# Altium schematic symbol library aiskylab-MCUs.SchLib: 242 symbols (part 6 of 21)
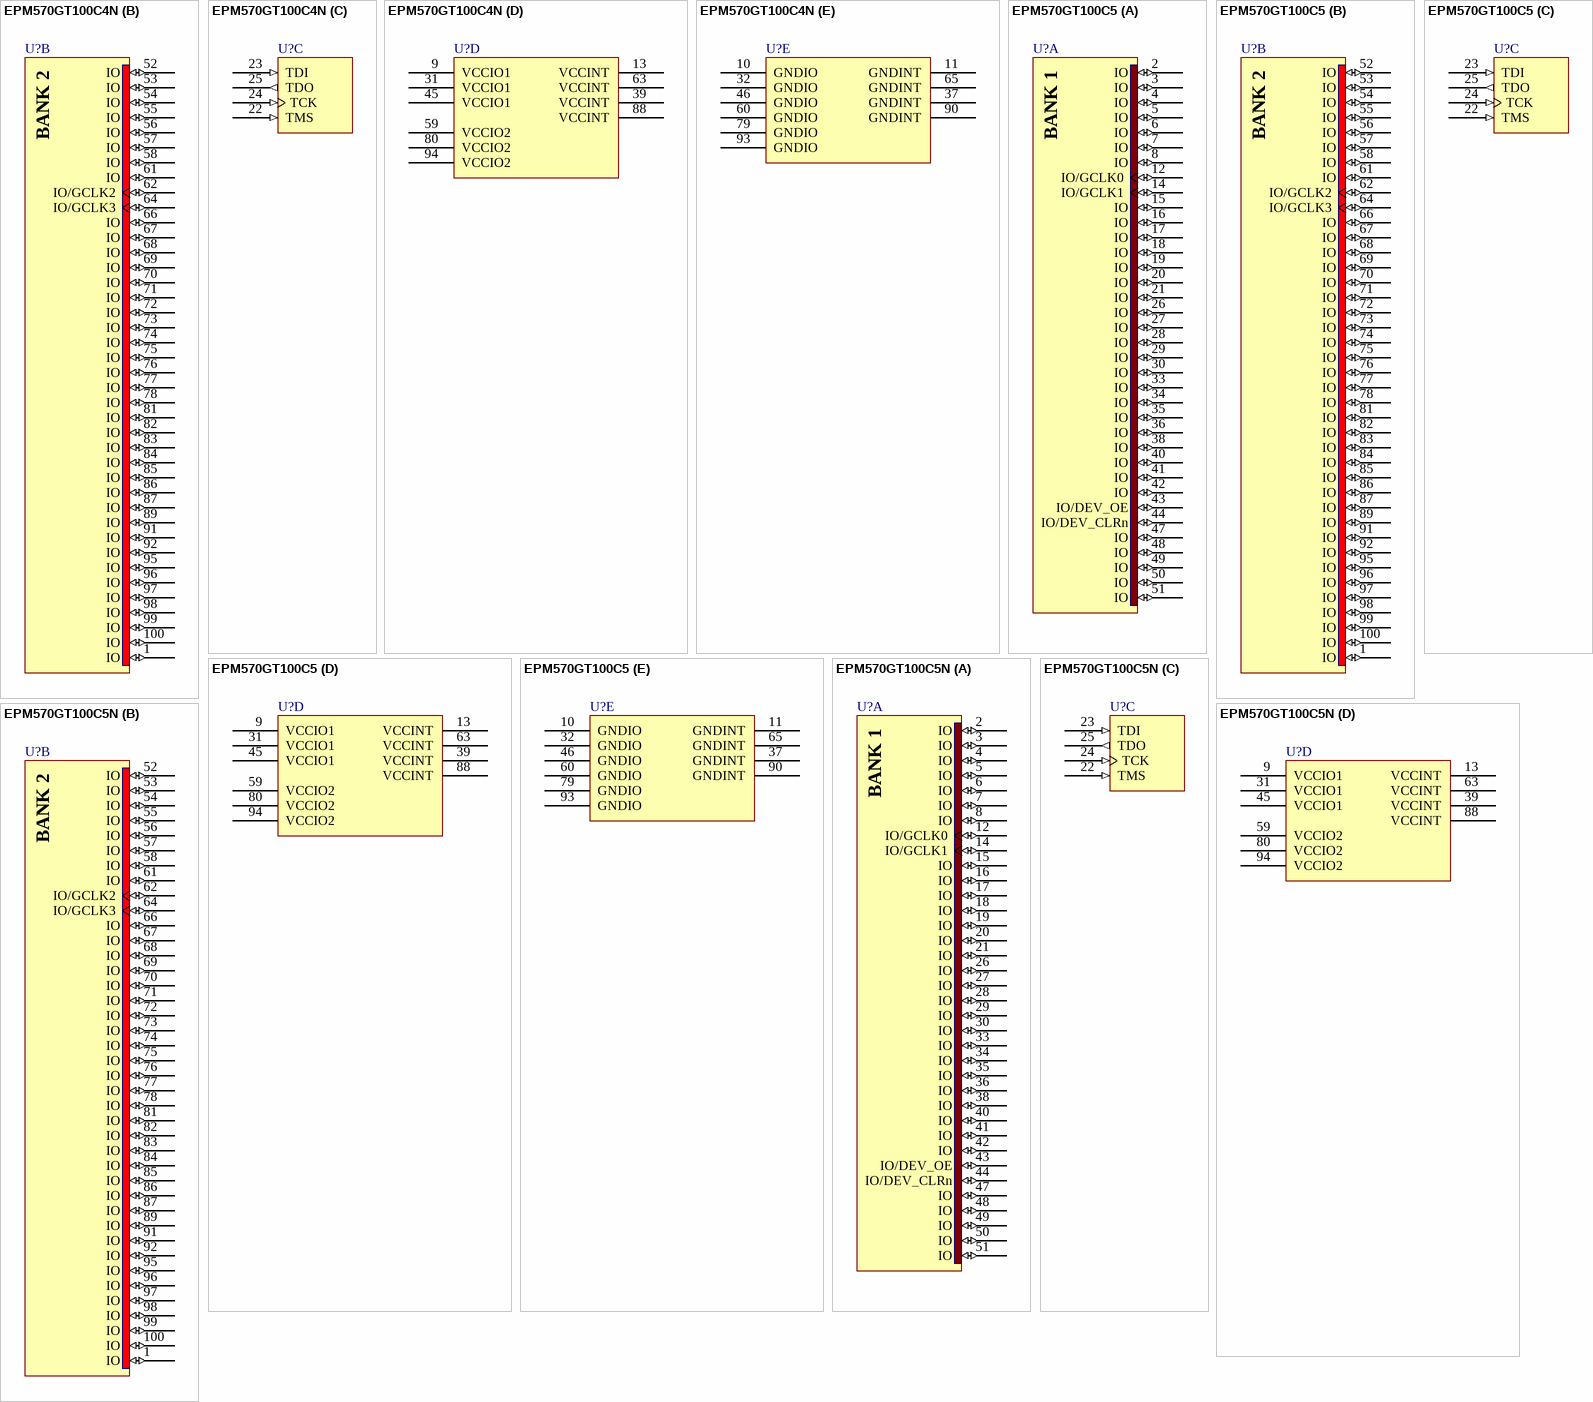
[diagram p169: symbols EPM570GT100C4N to EPM570GT100C5N]

## EPM570GT100C4N
designator U?
MAX II 1.8V CPLD, 76 IOs, 570 Logic Elements, 100-Pin Plastic TQFP, Commercial Temperature, Speed Grade 4, Pb-Free; Note: Each set of VCCIO pins can be connected to 3.3V, 2.5V, 1.8V, or 1.5V.; Note: All VCCINT pins must be connected to 1.8V.; Published: 4-Mar-2005; LatestRevisionDate: 13-Apr-2006; LatestRevisionNote: IPC-7351 Footprint Added.; DatasheetVersion: ver1.8, Jul-2006; PackageVersion: ver15.1, May-2008; PackageReference: TQFP100; Publisher: Altium Limited; PackageDescription: 100-Pin Plastic Thin Quad Flat Pack (TQFP100) - Wire Bond; Supplier 1: Digi-Key; Supplier Part Number 1: 544-1404-ND; Code_JEDEC: MS-026-AED; ComponentLink1Description: Manufacturer Link; ComponentLink1URL: http://www.altera.com/products/devices/cpld/max2/mx2-index.jsp; ComponentLink2Description: Handbook; ComponentLink2URL: http://www.altera.com/literature/hb/max2/max2_mii5v1.pdf; ComponentLink3Description: Packaging Specification; ComponentLink3URL: http://www.altera.com/literature/ds/dspkg.pdf
footprint TQFP100_N (Thin QFP, 100-Leads, Body 14x14mm, Pitch 0.5mm, IPC Medium Density)
footprint TQFP100_L (Thin QFP, 100-Leads, Body 14x14mm, Pitch 0.5mm, IPC High Density)
footprint TQFP100_M (Thin QFP, 100-Leads, Body 14x14mm, Pitch 0.5mm, IPC Low Density)
3D model EPM570-TQFP100 (100-Pin Plastic Thin Quad Flat Pack (TQFP100) - Wire Bond)
part A pins: 2 IO (io), 3 IO (io), 4 IO (io), 5 IO (io), 6 IO (io), 7 IO (io), 8 IO (io), 12 IO/GCLK0 (io), 14 IO/GCLK1 (io), 15 IO (io), 16 IO (io), 17 IO (io), 18 IO (io), 19 IO (io), 20 IO (io), 21 IO (io), 26 IO (io), 27 IO (io), 28 IO (io), 29 IO (io), 30 IO (io), 33 IO (io), 34 IO (io), 35 IO (io), 36 IO (io), 38 IO (io), 40 IO (io), 41 IO (io), 42 IO (io), 43 IO/DEV_OE (io), 44 IO/DEV_CLRn (io), 47 IO (io), 48 IO (io), 49 IO (io), 50 IO (io), 51 IO (io)
part B pins: 1 IO (io), 52 IO (io), 53 IO (io), 54 IO (io), 55 IO (io), 56 IO (io), 57 IO (io), 58 IO (io), 61 IO (io), 62 IO/GCLK2 (io), 64 IO/GCLK3 (io), 66 IO (io), 67 IO (io), 68 IO (io), 69 IO (io), 70 IO (io), 71 IO (io), 72 IO (io), 73 IO (io), 74 IO (io), 75 IO (io), 76 IO (io), 77 IO (io), 78 IO (io), 81 IO (io), 82 IO (io), 83 IO (io), 84 IO (io), 85 IO (io), 86 IO (io), 87 IO (io), 89 IO (io), 91 IO (io), 92 IO (io), 95 IO (io), 96 IO (io), 97 IO (io), 98 IO (io), 99 IO (io), 100 IO (io)
part C pins: 22 TMS (in), 23 TDI (in), 24 TCK (in), 25 TDO (out)
part D pins: 9 VCCIO1 (power), 13 VCCINT (power), 31 VCCIO1 (power), 39 VCCINT (power), 45 VCCIO1 (power), 59 VCCIO2 (power), 63 VCCINT (power), 80 VCCIO2 (power), 88 VCCINT (power), 94 VCCIO2 (power)
part E pins: 10 GNDIO (power), 11 GNDINT (power), 32 GNDIO (power), 37 GNDINT (power), 46 GNDIO (power), 60 GNDIO (power), 65 GNDINT (power), 79 GNDIO (power), 90 GNDINT (power), 93 GNDIO (power)
part A text: BANK 1
part B text: BANK 2

## EPM570GT100C5
designator U?
MAX II 1.8V CPLD, 76 IOs, 570 Logic Elements, 100-Pin Plastic TQFP, Commercial Temperature, Speed Grade 5; Note: Each set of VCCIO pins can be connected to 3.3V, 2.5V, 1.8V, or 1.5V.; Note: All VCCINT pins must be connected to 1.8V.; Published: 15-Jul-2004; LatestRevisionDate: 13-Apr-2006; LatestRevisionNote: IPC-7351 Footprint Added.; DatasheetVersion: ver1.8, Jul-2006; PackageVersion: ver15.1, May-2008; PackageReference: TQFP100; Publisher: Altium Limited; PackageDescription: 100-Pin Plastic Thin Quad Flat Pack (TQFP100) - Wire Bond; Supplier 1: Digi-Key; Supplier Part Number 1: 544-1308-ND; Code_JEDEC: MS-026-AED; ComponentLink1Description: Manufacturer Link; ComponentLink1URL: http://www.altera.com/products/devices/cpld/max2/mx2-index.jsp; ComponentLink2Description: Handbook; ComponentLink2URL: http://www.altera.com/literature/hb/max2/max2_mii5v1.pdf; ComponentLink3Description: Packaging Specification; ComponentLink3URL: http://www.altera.com/literature/ds/dspkg.pdf
footprint TQFP100_N (Thin QFP, 100-Leads, Body 14x14mm, Pitch 0.5mm, IPC Medium Density)
footprint TQFP100_L (Thin QFP, 100-Leads, Body 14x14mm, Pitch 0.5mm, IPC High Density)
footprint TQFP100_M (Thin QFP, 100-Leads, Body 14x14mm, Pitch 0.5mm, IPC Low Density)
3D model EPM570-TQFP100 (100-Pin Plastic Thin Quad Flat Pack (TQFP100) - Wire Bond)
part A pins: 2 IO (io), 3 IO (io), 4 IO (io), 5 IO (io), 6 IO (io), 7 IO (io), 8 IO (io), 12 IO/GCLK0 (io), 14 IO/GCLK1 (io), 15 IO (io), 16 IO (io), 17 IO (io), 18 IO (io), 19 IO (io), 20 IO (io), 21 IO (io), 26 IO (io), 27 IO (io), 28 IO (io), 29 IO (io), 30 IO (io), 33 IO (io), 34 IO (io), 35 IO (io), 36 IO (io), 38 IO (io), 40 IO (io), 41 IO (io), 42 IO (io), 43 IO/DEV_OE (io), 44 IO/DEV_CLRn (io), 47 IO (io), 48 IO (io), 49 IO (io), 50 IO (io), 51 IO (io)
part B pins: 1 IO (io), 52 IO (io), 53 IO (io), 54 IO (io), 55 IO (io), 56 IO (io), 57 IO (io), 58 IO (io), 61 IO (io), 62 IO/GCLK2 (io), 64 IO/GCLK3 (io), 66 IO (io), 67 IO (io), 68 IO (io), 69 IO (io), 70 IO (io), 71 IO (io), 72 IO (io), 73 IO (io), 74 IO (io), 75 IO (io), 76 IO (io), 77 IO (io), 78 IO (io), 81 IO (io), 82 IO (io), 83 IO (io), 84 IO (io), 85 IO (io), 86 IO (io), 87 IO (io), 89 IO (io), 91 IO (io), 92 IO (io), 95 IO (io), 96 IO (io), 97 IO (io), 98 IO (io), 99 IO (io), 100 IO (io)
part C pins: 22 TMS (in), 23 TDI (in), 24 TCK (in), 25 TDO (out)
part D pins: 9 VCCIO1 (power), 13 VCCINT (power), 31 VCCIO1 (power), 39 VCCINT (power), 45 VCCIO1 (power), 59 VCCIO2 (power), 63 VCCINT (power), 80 VCCIO2 (power), 88 VCCINT (power), 94 VCCIO2 (power)
part E pins: 10 GNDIO (power), 11 GNDINT (power), 32 GNDIO (power), 37 GNDINT (power), 46 GNDIO (power), 60 GNDIO (power), 65 GNDINT (power), 79 GNDIO (power), 90 GNDINT (power), 93 GNDIO (power)
part A text: BANK 1
part B text: BANK 2

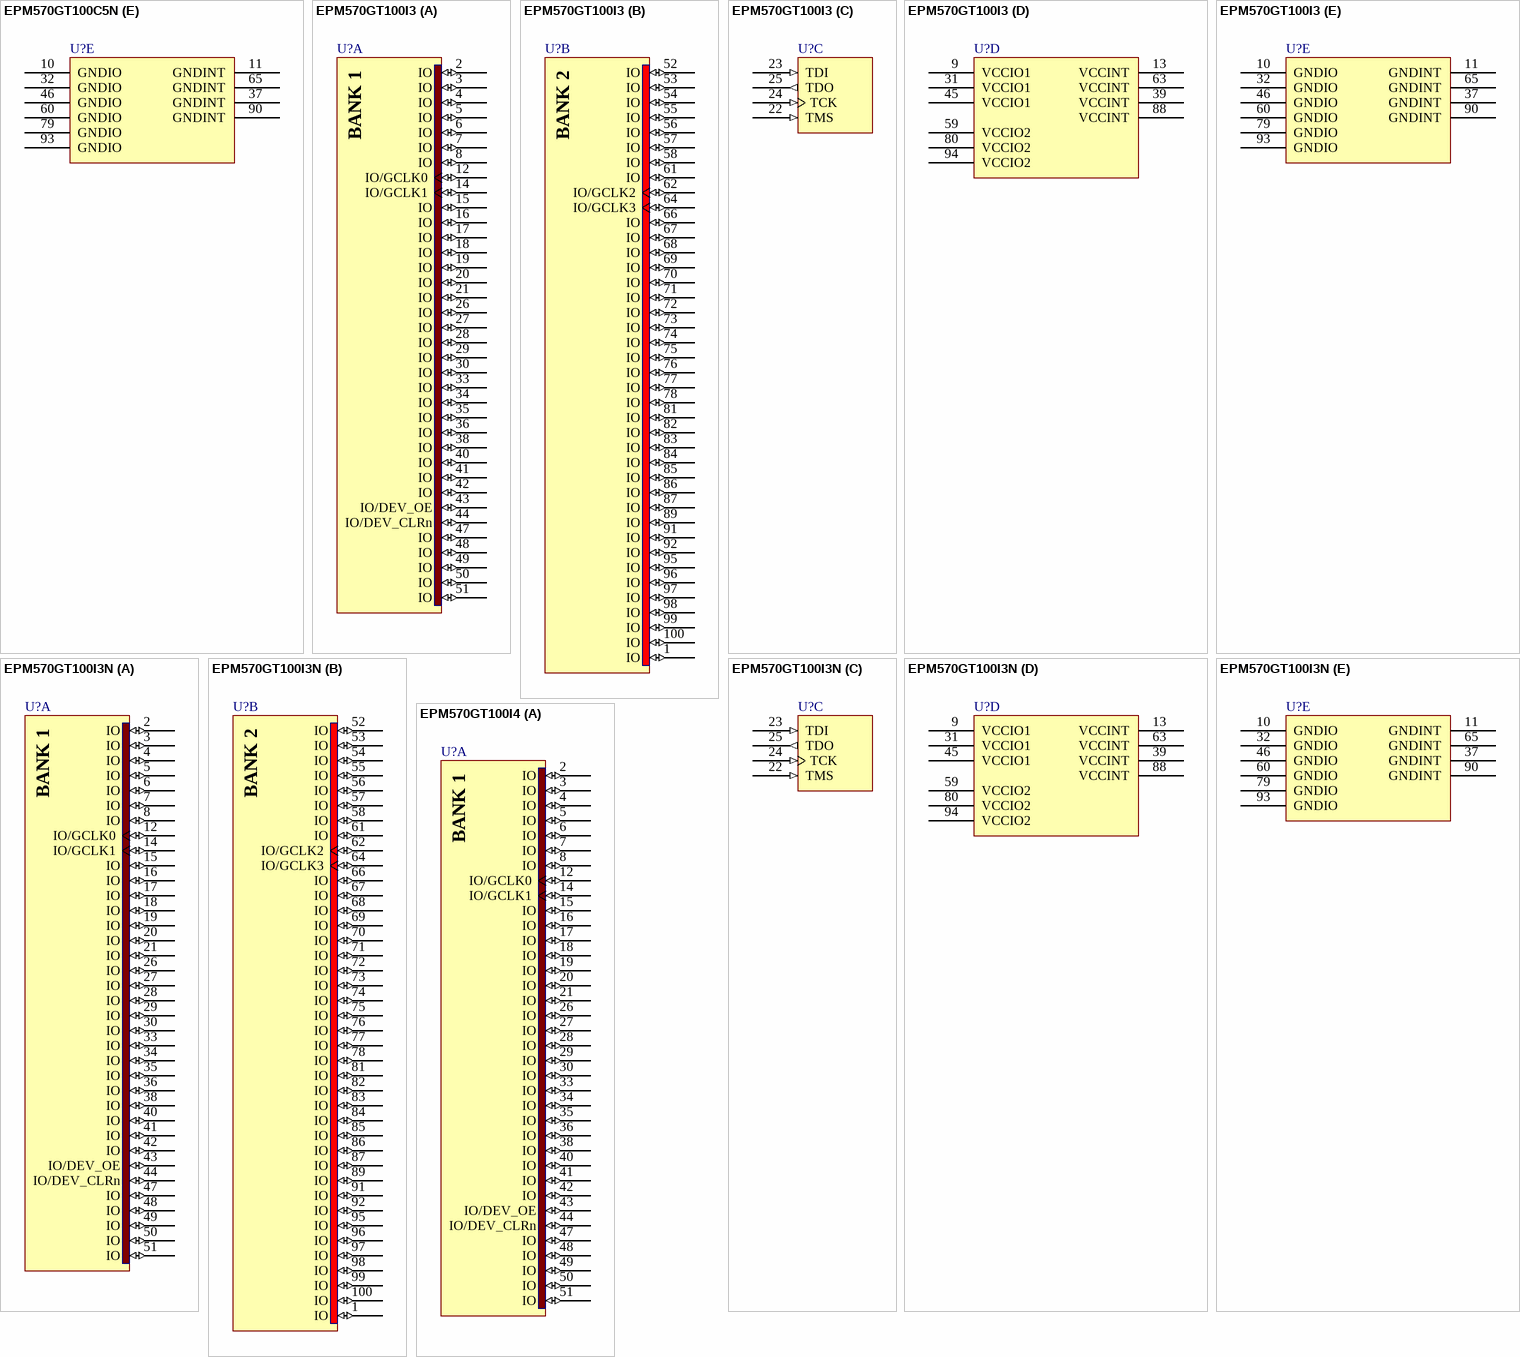
[diagram p45: symbols EPM570GT100C5N to EPM570GT100I4]

## EPM570GT100C5N
designator U?
MAX II 1.8V CPLD, 76 IOs, 570 Logic Elements, 100-Pin Plastic TQFP, Commercial Temperature, Speed Grade 5, Pb-Free; Note: Each set of VCCIO pins can be connected to 3.3V, 2.5V, 1.8V, or 1.5V.; Note: All VCCINT pins must be connected to 1.8V.; Published: 4-Mar-2005; LatestRevisionDate: 13-Apr-2006; LatestRevisionNote: IPC-7351 Footprint Added.; DatasheetVersion: ver1.8, Jul-2006; PackageVersion: ver15.1, May-2008; PackageReference: TQFP100; Publisher: Altium Limited; PackageDescription: 100-Pin Plastic Thin Quad Flat Pack (TQFP100) - Wire Bond; Supplier 1: Digi-Key; Supplier Part Number 1: 544-1405-ND; Supplier 2: Farnell; Supplier Part Number 2: 1549469; Code_JEDEC: MS-026-AED; ComponentLink1Description: Manufacturer Link; ComponentLink1URL: http://www.altera.com/products/devices/cpld/max2/mx2-index.jsp; ComponentLink2Description: Handbook; ComponentLink2URL: http://www.altera.com/literature/hb/max2/max2_mii5v1.pdf; ComponentLink3Description: Packaging Specification; ComponentLink3URL: http://www.altera.com/literature/ds/dspkg.pdf
footprint TQFP100_N (Thin QFP, 100-Leads, Body 14x14mm, Pitch 0.5mm, IPC Medium Density)
footprint TQFP100_L (Thin QFP, 100-Leads, Body 14x14mm, Pitch 0.5mm, IPC High Density)
footprint TQFP100_M (Thin QFP, 100-Leads, Body 14x14mm, Pitch 0.5mm, IPC Low Density)
3D model EPM570-TQFP100 (100-Pin Plastic Thin Quad Flat Pack (TQFP100) - Wire Bond)
part A pins: 2 IO (io), 3 IO (io), 4 IO (io), 5 IO (io), 6 IO (io), 7 IO (io), 8 IO (io), 12 IO/GCLK0 (io), 14 IO/GCLK1 (io), 15 IO (io), 16 IO (io), 17 IO (io), 18 IO (io), 19 IO (io), 20 IO (io), 21 IO (io), 26 IO (io), 27 IO (io), 28 IO (io), 29 IO (io), 30 IO (io), 33 IO (io), 34 IO (io), 35 IO (io), 36 IO (io), 38 IO (io), 40 IO (io), 41 IO (io), 42 IO (io), 43 IO/DEV_OE (io), 44 IO/DEV_CLRn (io), 47 IO (io), 48 IO (io), 49 IO (io), 50 IO (io), 51 IO (io)
part B pins: 1 IO (io), 52 IO (io), 53 IO (io), 54 IO (io), 55 IO (io), 56 IO (io), 57 IO (io), 58 IO (io), 61 IO (io), 62 IO/GCLK2 (io), 64 IO/GCLK3 (io), 66 IO (io), 67 IO (io), 68 IO (io), 69 IO (io), 70 IO (io), 71 IO (io), 72 IO (io), 73 IO (io), 74 IO (io), 75 IO (io), 76 IO (io), 77 IO (io), 78 IO (io), 81 IO (io), 82 IO (io), 83 IO (io), 84 IO (io), 85 IO (io), 86 IO (io), 87 IO (io), 89 IO (io), 91 IO (io), 92 IO (io), 95 IO (io), 96 IO (io), 97 IO (io), 98 IO (io), 99 IO (io), 100 IO (io)
part C pins: 22 TMS (in), 23 TDI (in), 24 TCK (in), 25 TDO (out)
part D pins: 9 VCCIO1 (power), 13 VCCINT (power), 31 VCCIO1 (power), 39 VCCINT (power), 45 VCCIO1 (power), 59 VCCIO2 (power), 63 VCCINT (power), 80 VCCIO2 (power), 88 VCCINT (power), 94 VCCIO2 (power)
part E pins: 10 GNDIO (power), 11 GNDINT (power), 32 GNDIO (power), 37 GNDINT (power), 46 GNDIO (power), 60 GNDIO (power), 65 GNDINT (power), 79 GNDIO (power), 90 GNDINT (power), 93 GNDIO (power)
part A text: BANK 1
part B text: BANK 2

## EPM570GT100I3
designator U?
MAX II 1.8V CPLD, 76 IOs, 570 Logic Elements, 100-Pin Plastic TQFP, Industrial Temperature, Speed Grade 3; Note: Each set of VCCIO pins can be connected to 3.3V, 2.5V, 1.8V, or 1.5V.; Note: All VCCINT pins must be connected to 1.8V.; Published: 18-Aug-2005; LatestRevisionDate: 13-Apr-2006; LatestRevisionNote: IPC-7351 Footprint Added.; DatasheetVersion: ver1.8, Jul-2006; PackageVersion: ver15.1, May-2008; PackageReference: TQFP100; Publisher: Altium Limited; PackageDescription: 100-Pin Plastic Thin Quad Flat Pack (TQFP100) - Wire Bond; Code_JEDEC: MS-026-AED; ComponentLink1Description: Manufacturer Link; ComponentLink1URL: http://www.altera.com/products/devices/cpld/max2/mx2-index.jsp; ComponentLink2Description: Handbook; ComponentLink2URL: http://www.altera.com/literature/hb/max2/max2_mii5v1.pdf; ComponentLink3Description: Packaging Specification; ComponentLink3URL: http://www.altera.com/literature/ds/dspkg.pdf
footprint TQFP100_N (Thin QFP, 100-Leads, Body 14x14mm, Pitch 0.5mm, IPC Medium Density)
footprint TQFP100_L (Thin QFP, 100-Leads, Body 14x14mm, Pitch 0.5mm, IPC High Density)
footprint TQFP100_M (Thin QFP, 100-Leads, Body 14x14mm, Pitch 0.5mm, IPC Low Density)
3D model EPM570-TQFP100 (100-Pin Plastic Thin Quad Flat Pack (TQFP100) - Wire Bond)
part A pins: 2 IO (io), 3 IO (io), 4 IO (io), 5 IO (io), 6 IO (io), 7 IO (io), 8 IO (io), 12 IO/GCLK0 (io), 14 IO/GCLK1 (io), 15 IO (io), 16 IO (io), 17 IO (io), 18 IO (io), 19 IO (io), 20 IO (io), 21 IO (io), 26 IO (io), 27 IO (io), 28 IO (io), 29 IO (io), 30 IO (io), 33 IO (io), 34 IO (io), 35 IO (io), 36 IO (io), 38 IO (io), 40 IO (io), 41 IO (io), 42 IO (io), 43 IO/DEV_OE (io), 44 IO/DEV_CLRn (io), 47 IO (io), 48 IO (io), 49 IO (io), 50 IO (io), 51 IO (io)
part B pins: 1 IO (io), 52 IO (io), 53 IO (io), 54 IO (io), 55 IO (io), 56 IO (io), 57 IO (io), 58 IO (io), 61 IO (io), 62 IO/GCLK2 (io), 64 IO/GCLK3 (io), 66 IO (io), 67 IO (io), 68 IO (io), 69 IO (io), 70 IO (io), 71 IO (io), 72 IO (io), 73 IO (io), 74 IO (io), 75 IO (io), 76 IO (io), 77 IO (io), 78 IO (io), 81 IO (io), 82 IO (io), 83 IO (io), 84 IO (io), 85 IO (io), 86 IO (io), 87 IO (io), 89 IO (io), 91 IO (io), 92 IO (io), 95 IO (io), 96 IO (io), 97 IO (io), 98 IO (io), 99 IO (io), 100 IO (io)
part C pins: 22 TMS (in), 23 TDI (in), 24 TCK (in), 25 TDO (out)
part D pins: 9 VCCIO1 (power), 13 VCCINT (power), 31 VCCIO1 (power), 39 VCCINT (power), 45 VCCIO1 (power), 59 VCCIO2 (power), 63 VCCINT (power), 80 VCCIO2 (power), 88 VCCINT (power), 94 VCCIO2 (power)
part E pins: 10 GNDIO (power), 11 GNDINT (power), 32 GNDIO (power), 37 GNDINT (power), 46 GNDIO (power), 60 GNDIO (power), 65 GNDINT (power), 79 GNDIO (power), 90 GNDINT (power), 93 GNDIO (power)
part A text: BANK 1
part B text: BANK 2

## EPM570GT100I3N
designator U?
MAX II 1.8V CPLD, 76 IOs, 570 Logic Elements, 100-Pin Plastic TQFP, Industrial Temperature, Speed Grade 3, Pb-Free; Note: Each set of VCCIO pins can be connected to 3.3V, 2.5V, 1.8V, or 1.5V.; Note: All VCCINT pins must be connected to 1.8V.; Published: 18-Aug-2005; LatestRevisionDate: 13-Apr-2006; LatestRevisionNote: IPC-7351 Footprint Added.; DatasheetVersion: ver1.8, Jul-2006; PackageVersion: ver15.1, May-2008; PackageReference: TQFP100; Publisher: Altium Limited; PackageDescription: 100-Pin Plastic Thin Quad Flat Pack (TQFP100) - Wire Bond; Code_JEDEC: MS-026-AED; ComponentLink1Description: Manufacturer Link; ComponentLink1URL: http://www.altera.com/products/devices/cpld/max2/mx2-index.jsp; ComponentLink2Description: Handbook; ComponentLink2URL: http://www.altera.com/literature/hb/max2/max2_mii5v1.pdf; ComponentLink3Description: Packaging Specification; ComponentLink3URL: http://www.altera.com/literature/ds/dspkg.pdf
footprint TQFP100_N (Thin QFP, 100-Leads, Body 14x14mm, Pitch 0.5mm, IPC Medium Density)
footprint TQFP100_L (Thin QFP, 100-Leads, Body 14x14mm, Pitch 0.5mm, IPC High Density)
footprint TQFP100_M (Thin QFP, 100-Leads, Body 14x14mm, Pitch 0.5mm, IPC Low Density)
3D model EPM570-TQFP100 (100-Pin Plastic Thin Quad Flat Pack (TQFP100) - Wire Bond)
part A pins: 2 IO (io), 3 IO (io), 4 IO (io), 5 IO (io), 6 IO (io), 7 IO (io), 8 IO (io), 12 IO/GCLK0 (io), 14 IO/GCLK1 (io), 15 IO (io), 16 IO (io), 17 IO (io), 18 IO (io), 19 IO (io), 20 IO (io), 21 IO (io), 26 IO (io), 27 IO (io), 28 IO (io), 29 IO (io), 30 IO (io), 33 IO (io), 34 IO (io), 35 IO (io), 36 IO (io), 38 IO (io), 40 IO (io), 41 IO (io), 42 IO (io), 43 IO/DEV_OE (io), 44 IO/DEV_CLRn (io), 47 IO (io), 48 IO (io), 49 IO (io), 50 IO (io), 51 IO (io)
part B pins: 1 IO (io), 52 IO (io), 53 IO (io), 54 IO (io), 55 IO (io), 56 IO (io), 57 IO (io), 58 IO (io), 61 IO (io), 62 IO/GCLK2 (io), 64 IO/GCLK3 (io), 66 IO (io), 67 IO (io), 68 IO (io), 69 IO (io), 70 IO (io), 71 IO (io), 72 IO (io), 73 IO (io), 74 IO (io), 75 IO (io), 76 IO (io), 77 IO (io), 78 IO (io), 81 IO (io), 82 IO (io), 83 IO (io), 84 IO (io), 85 IO (io), 86 IO (io), 87 IO (io), 89 IO (io), 91 IO (io), 92 IO (io), 95 IO (io), 96 IO (io), 97 IO (io), 98 IO (io), 99 IO (io), 100 IO (io)
part C pins: 22 TMS (in), 23 TDI (in), 24 TCK (in), 25 TDO (out)
part D pins: 9 VCCIO1 (power), 13 VCCINT (power), 31 VCCIO1 (power), 39 VCCINT (power), 45 VCCIO1 (power), 59 VCCIO2 (power), 63 VCCINT (power), 80 VCCIO2 (power), 88 VCCINT (power), 94 VCCIO2 (power)
part E pins: 10 GNDIO (power), 11 GNDINT (power), 32 GNDIO (power), 37 GNDINT (power), 46 GNDIO (power), 60 GNDIO (power), 65 GNDINT (power), 79 GNDIO (power), 90 GNDINT (power), 93 GNDIO (power)
part A text: BANK 1
part B text: BANK 2

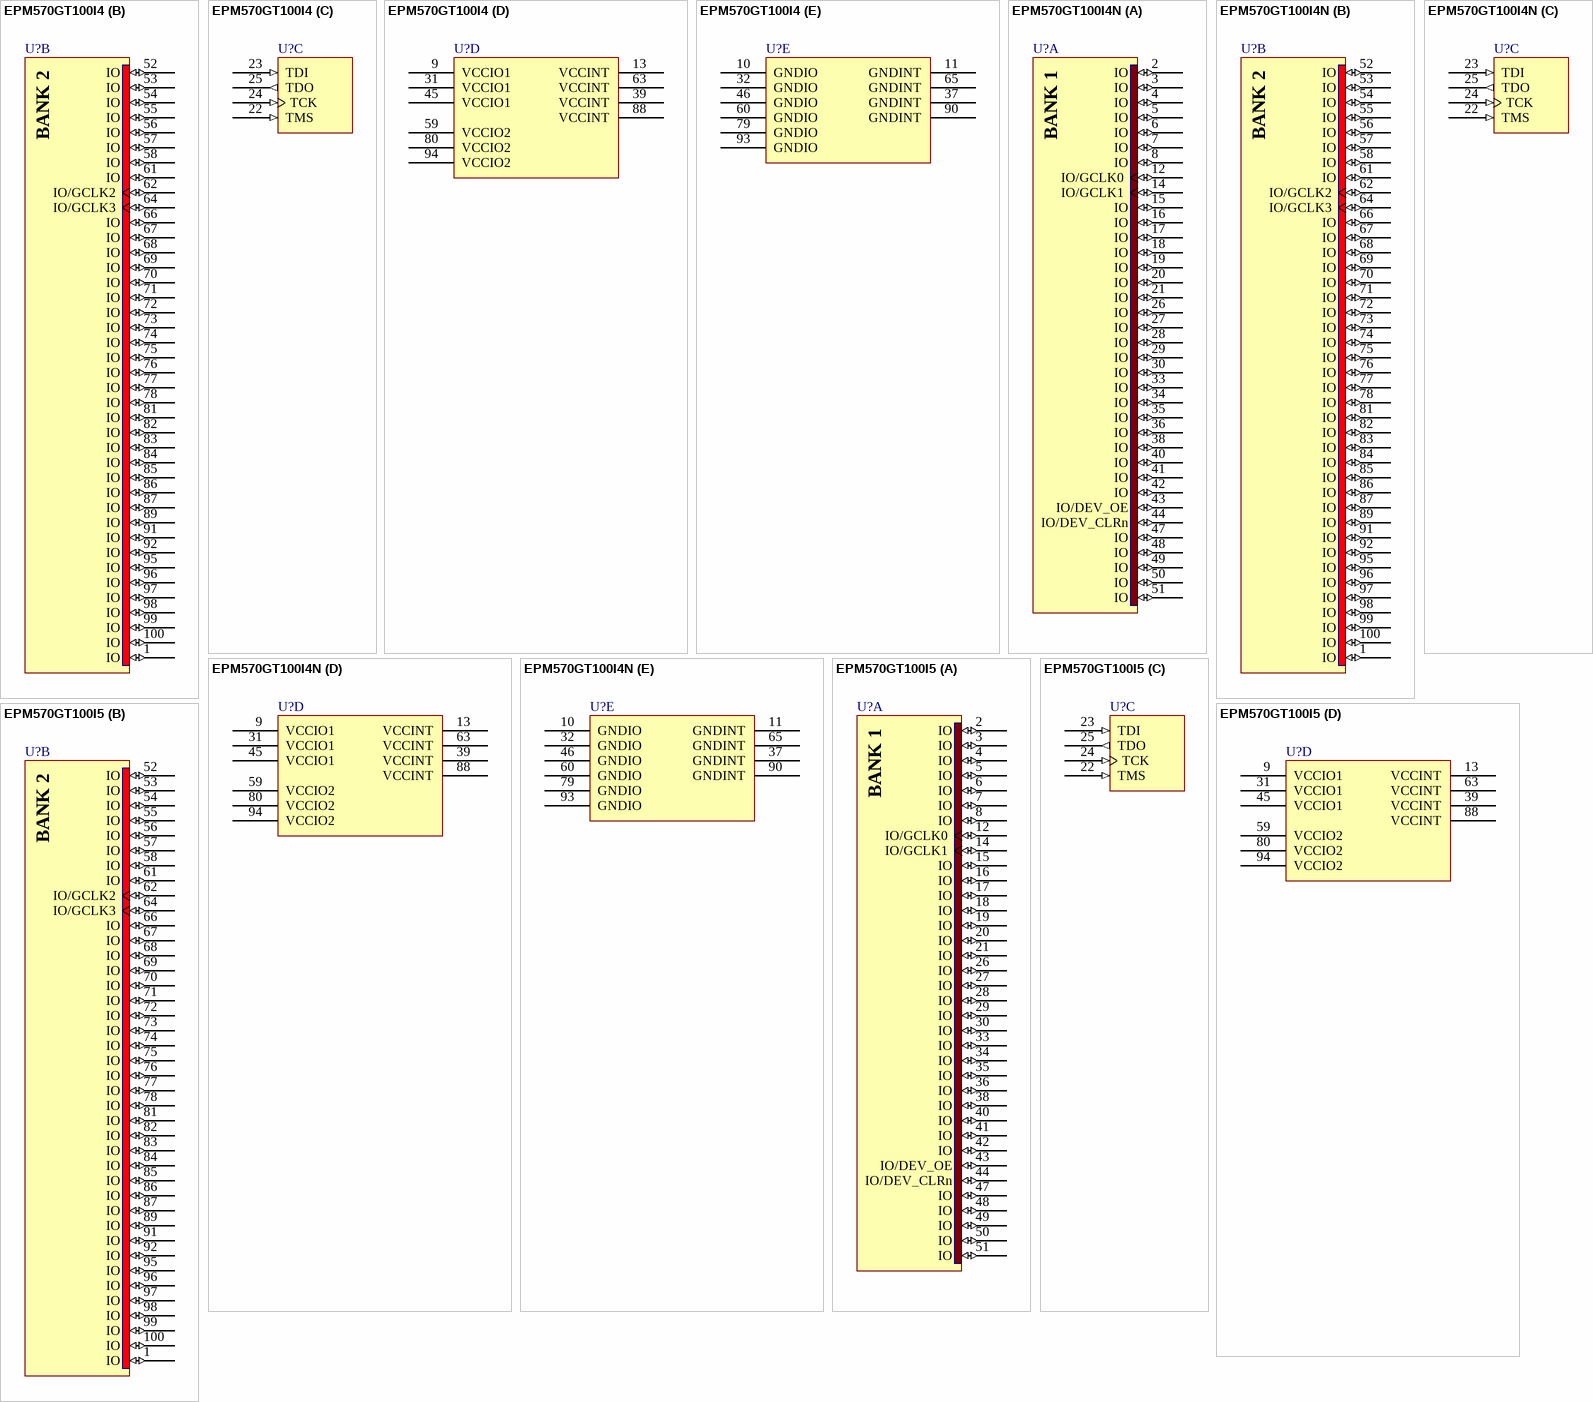
[diagram p46: symbols EPM570GT100I4 to EPM570GT100I5]

## EPM570GT100I4
designator U?
MAX II 1.8V CPLD, 76 IOs, 570 Logic Elements, 100-Pin Plastic TQFP, Industrial Temperature, Speed Grade 4; Note: Each set of VCCIO pins can be connected to 3.3V, 2.5V, 1.8V, or 1.5V.; Note: All VCCINT pins must be connected to 1.8V.; Published: 18-Aug-2005; LatestRevisionDate: 13-Apr-2006; LatestRevisionNote: IPC-7351 Footprint Added.; DatasheetVersion: ver1.8, Jul-2006; PackageVersion: ver15.1, May-2008; PackageReference: TQFP100; Publisher: Altium Limited; PackageDescription: 100-Pin Plastic Thin Quad Flat Pack (TQFP100) - Wire Bond; Code_JEDEC: MS-026-AED; ComponentLink1Description: Manufacturer Link; ComponentLink1URL: http://www.altera.com/products/devices/cpld/max2/mx2-index.jsp; ComponentLink2Description: Handbook; ComponentLink2URL: http://www.altera.com/literature/hb/max2/max2_mii5v1.pdf; ComponentLink3Description: Packaging Specification; ComponentLink3URL: http://www.altera.com/literature/ds/dspkg.pdf
footprint TQFP100_N (Thin QFP, 100-Leads, Body 14x14mm, Pitch 0.5mm, IPC Medium Density)
footprint TQFP100_L (Thin QFP, 100-Leads, Body 14x14mm, Pitch 0.5mm, IPC High Density)
footprint TQFP100_M (Thin QFP, 100-Leads, Body 14x14mm, Pitch 0.5mm, IPC Low Density)
3D model EPM570-TQFP100 (100-Pin Plastic Thin Quad Flat Pack (TQFP100) - Wire Bond)
part A pins: 2 IO (io), 3 IO (io), 4 IO (io), 5 IO (io), 6 IO (io), 7 IO (io), 8 IO (io), 12 IO/GCLK0 (io), 14 IO/GCLK1 (io), 15 IO (io), 16 IO (io), 17 IO (io), 18 IO (io), 19 IO (io), 20 IO (io), 21 IO (io), 26 IO (io), 27 IO (io), 28 IO (io), 29 IO (io), 30 IO (io), 33 IO (io), 34 IO (io), 35 IO (io), 36 IO (io), 38 IO (io), 40 IO (io), 41 IO (io), 42 IO (io), 43 IO/DEV_OE (io), 44 IO/DEV_CLRn (io), 47 IO (io), 48 IO (io), 49 IO (io), 50 IO (io), 51 IO (io)
part B pins: 1 IO (io), 52 IO (io), 53 IO (io), 54 IO (io), 55 IO (io), 56 IO (io), 57 IO (io), 58 IO (io), 61 IO (io), 62 IO/GCLK2 (io), 64 IO/GCLK3 (io), 66 IO (io), 67 IO (io), 68 IO (io), 69 IO (io), 70 IO (io), 71 IO (io), 72 IO (io), 73 IO (io), 74 IO (io), 75 IO (io), 76 IO (io), 77 IO (io), 78 IO (io), 81 IO (io), 82 IO (io), 83 IO (io), 84 IO (io), 85 IO (io), 86 IO (io), 87 IO (io), 89 IO (io), 91 IO (io), 92 IO (io), 95 IO (io), 96 IO (io), 97 IO (io), 98 IO (io), 99 IO (io), 100 IO (io)
part C pins: 22 TMS (in), 23 TDI (in), 24 TCK (in), 25 TDO (out)
part D pins: 9 VCCIO1 (power), 13 VCCINT (power), 31 VCCIO1 (power), 39 VCCINT (power), 45 VCCIO1 (power), 59 VCCIO2 (power), 63 VCCINT (power), 80 VCCIO2 (power), 88 VCCINT (power), 94 VCCIO2 (power)
part E pins: 10 GNDIO (power), 11 GNDINT (power), 32 GNDIO (power), 37 GNDINT (power), 46 GNDIO (power), 60 GNDIO (power), 65 GNDINT (power), 79 GNDIO (power), 90 GNDINT (power), 93 GNDIO (power)
part A text: BANK 1
part B text: BANK 2

## EPM570GT100I4N
designator U?
MAX II 1.8V CPLD, 76 IOs, 570 Logic Elements, 100-Pin Plastic TQFP, Industrial Temperature, Speed Grade 4, Pb-Free; Note: Each set of VCCIO pins can be connected to 3.3V, 2.5V, 1.8V, or 1.5V.; Note: All VCCINT pins must be connected to 1.8V.; Published: 18-Aug-2005; LatestRevisionDate: 13-Apr-2006; LatestRevisionNote: IPC-7351 Footprint Added.; DatasheetVersion: ver1.8, Jul-2006; PackageVersion: ver15.1, May-2008; PackageReference: TQFP100; Publisher: Altium Limited; PackageDescription: 100-Pin Plastic Thin Quad Flat Pack (TQFP100) - Wire Bond; Code_JEDEC: MS-026-AED; ComponentLink1Description: Manufacturer Link; ComponentLink1URL: http://www.altera.com/products/devices/cpld/max2/mx2-index.jsp; ComponentLink2Description: Handbook; ComponentLink2URL: http://www.altera.com/literature/hb/max2/max2_mii5v1.pdf; ComponentLink3Description: Packaging Specification; ComponentLink3URL: http://www.altera.com/literature/ds/dspkg.pdf
footprint TQFP100_N (Thin QFP, 100-Leads, Body 14x14mm, Pitch 0.5mm, IPC Medium Density)
footprint TQFP100_L (Thin QFP, 100-Leads, Body 14x14mm, Pitch 0.5mm, IPC High Density)
footprint TQFP100_M (Thin QFP, 100-Leads, Body 14x14mm, Pitch 0.5mm, IPC Low Density)
3D model EPM570-TQFP100 (100-Pin Plastic Thin Quad Flat Pack (TQFP100) - Wire Bond)
part A pins: 2 IO (io), 3 IO (io), 4 IO (io), 5 IO (io), 6 IO (io), 7 IO (io), 8 IO (io), 12 IO/GCLK0 (io), 14 IO/GCLK1 (io), 15 IO (io), 16 IO (io), 17 IO (io), 18 IO (io), 19 IO (io), 20 IO (io), 21 IO (io), 26 IO (io), 27 IO (io), 28 IO (io), 29 IO (io), 30 IO (io), 33 IO (io), 34 IO (io), 35 IO (io), 36 IO (io), 38 IO (io), 40 IO (io), 41 IO (io), 42 IO (io), 43 IO/DEV_OE (io), 44 IO/DEV_CLRn (io), 47 IO (io), 48 IO (io), 49 IO (io), 50 IO (io), 51 IO (io)
part B pins: 1 IO (io), 52 IO (io), 53 IO (io), 54 IO (io), 55 IO (io), 56 IO (io), 57 IO (io), 58 IO (io), 61 IO (io), 62 IO/GCLK2 (io), 64 IO/GCLK3 (io), 66 IO (io), 67 IO (io), 68 IO (io), 69 IO (io), 70 IO (io), 71 IO (io), 72 IO (io), 73 IO (io), 74 IO (io), 75 IO (io), 76 IO (io), 77 IO (io), 78 IO (io), 81 IO (io), 82 IO (io), 83 IO (io), 84 IO (io), 85 IO (io), 86 IO (io), 87 IO (io), 89 IO (io), 91 IO (io), 92 IO (io), 95 IO (io), 96 IO (io), 97 IO (io), 98 IO (io), 99 IO (io), 100 IO (io)
part C pins: 22 TMS (in), 23 TDI (in), 24 TCK (in), 25 TDO (out)
part D pins: 9 VCCIO1 (power), 13 VCCINT (power), 31 VCCIO1 (power), 39 VCCINT (power), 45 VCCIO1 (power), 59 VCCIO2 (power), 63 VCCINT (power), 80 VCCIO2 (power), 88 VCCINT (power), 94 VCCIO2 (power)
part E pins: 10 GNDIO (power), 11 GNDINT (power), 32 GNDIO (power), 37 GNDINT (power), 46 GNDIO (power), 60 GNDIO (power), 65 GNDINT (power), 79 GNDIO (power), 90 GNDINT (power), 93 GNDIO (power)
part A text: BANK 1
part B text: BANK 2

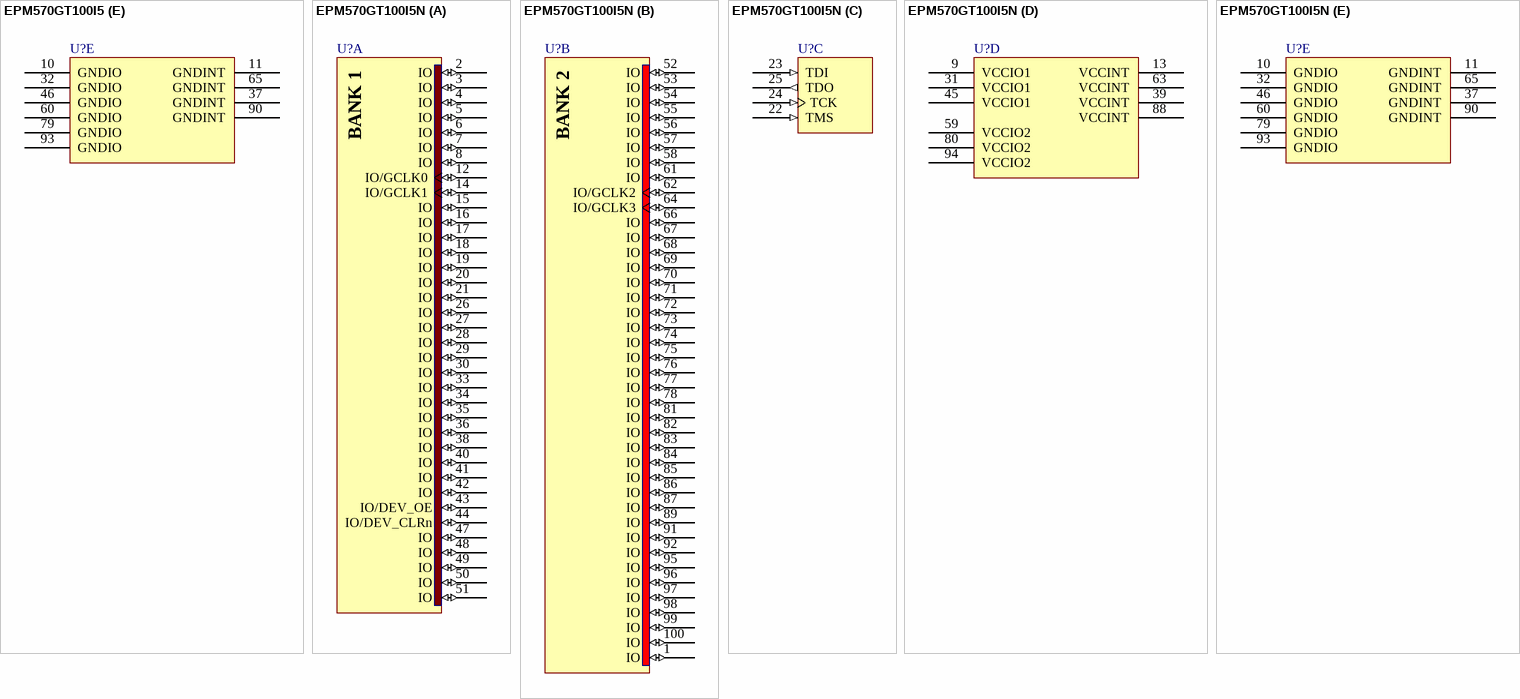
[diagram p47: symbols EPM570GT100I5 to EPM570GT100I5N]

## EPM570GT100I5
designator U?
MAX II 1.8V CPLD, 76 IOs, 570 Logic Elements, 100-Pin Plastic TQFP, Industrial Temperature, Speed Grade 5; Note: Each set of VCCIO pins can be connected to 3.3V, 2.5V, 1.8V, or 1.5V.; Note: All VCCINT pins must be connected to 1.8V.; Published: 18-Aug-2005; LatestRevisionDate: 13-Apr-2006; LatestRevisionNote: IPC-7351 Footprint Added.; DatasheetVersion: ver1.8, Jul-2006; PackageVersion: ver15.1, May-2008; PackageReference: TQFP100; Publisher: Altium Limited; PackageDescription: 100-Pin Plastic Thin Quad Flat Pack (TQFP100) - Wire Bond; Code_JEDEC: MS-026-AED; ComponentLink1Description: Manufacturer Link; ComponentLink1URL: http://www.altera.com/products/devices/cpld/max2/mx2-index.jsp; ComponentLink2Description: Handbook; ComponentLink2URL: http://www.altera.com/literature/hb/max2/max2_mii5v1.pdf; ComponentLink3Description: Packaging Specification; ComponentLink3URL: http://www.altera.com/literature/ds/dspkg.pdf
footprint TQFP100_N (Thin QFP, 100-Leads, Body 14x14mm, Pitch 0.5mm, IPC Medium Density)
footprint TQFP100_L (Thin QFP, 100-Leads, Body 14x14mm, Pitch 0.5mm, IPC High Density)
footprint TQFP100_M (Thin QFP, 100-Leads, Body 14x14mm, Pitch 0.5mm, IPC Low Density)
3D model EPM570-TQFP100 (100-Pin Plastic Thin Quad Flat Pack (TQFP100) - Wire Bond)
part A pins: 2 IO (io), 3 IO (io), 4 IO (io), 5 IO (io), 6 IO (io), 7 IO (io), 8 IO (io), 12 IO/GCLK0 (io), 14 IO/GCLK1 (io), 15 IO (io), 16 IO (io), 17 IO (io), 18 IO (io), 19 IO (io), 20 IO (io), 21 IO (io), 26 IO (io), 27 IO (io), 28 IO (io), 29 IO (io), 30 IO (io), 33 IO (io), 34 IO (io), 35 IO (io), 36 IO (io), 38 IO (io), 40 IO (io), 41 IO (io), 42 IO (io), 43 IO/DEV_OE (io), 44 IO/DEV_CLRn (io), 47 IO (io), 48 IO (io), 49 IO (io), 50 IO (io), 51 IO (io)
part B pins: 1 IO (io), 52 IO (io), 53 IO (io), 54 IO (io), 55 IO (io), 56 IO (io), 57 IO (io), 58 IO (io), 61 IO (io), 62 IO/GCLK2 (io), 64 IO/GCLK3 (io), 66 IO (io), 67 IO (io), 68 IO (io), 69 IO (io), 70 IO (io), 71 IO (io), 72 IO (io), 73 IO (io), 74 IO (io), 75 IO (io), 76 IO (io), 77 IO (io), 78 IO (io), 81 IO (io), 82 IO (io), 83 IO (io), 84 IO (io), 85 IO (io), 86 IO (io), 87 IO (io), 89 IO (io), 91 IO (io), 92 IO (io), 95 IO (io), 96 IO (io), 97 IO (io), 98 IO (io), 99 IO (io), 100 IO (io)
part C pins: 22 TMS (in), 23 TDI (in), 24 TCK (in), 25 TDO (out)
part D pins: 9 VCCIO1 (power), 13 VCCINT (power), 31 VCCIO1 (power), 39 VCCINT (power), 45 VCCIO1 (power), 59 VCCIO2 (power), 63 VCCINT (power), 80 VCCIO2 (power), 88 VCCINT (power), 94 VCCIO2 (power)
part E pins: 10 GNDIO (power), 11 GNDINT (power), 32 GNDIO (power), 37 GNDINT (power), 46 GNDIO (power), 60 GNDIO (power), 65 GNDINT (power), 79 GNDIO (power), 90 GNDINT (power), 93 GNDIO (power)
part A text: BANK 1
part B text: BANK 2

## EPM570GT100I5N
designator U?
MAX II 1.8V CPLD, 76 IOs, 570 Logic Elements, 100-Pin Plastic TQFP, Industrial Temperature, Speed Grade 5, Pb-Free; Note: Each set of VCCIO pins can be connected to 3.3V, 2.5V, 1.8V, or 1.5V.; Note: All VCCINT pins must be connected to 1.8V.; Published: 18-Aug-2005; LatestRevisionDate: 13-Apr-2006; LatestRevisionNote: IPC-7351 Footprint Added.; DatasheetVersion: ver1.8, Jul-2006; PackageVersion: ver15.1, May-2008; PackageReference: TQFP100; Publisher: Altium Limited; PackageDescription: 100-Pin Plastic Thin Quad Flat Pack (TQFP100) - Wire Bond; Code_JEDEC: MS-026-AED; ComponentLink1Description: Manufacturer Link; ComponentLink1URL: http://www.altera.com/products/devices/cpld/max2/mx2-index.jsp; ComponentLink2Description: Handbook; ComponentLink2URL: http://www.altera.com/literature/hb/max2/max2_mii5v1.pdf; ComponentLink3Description: Packaging Specification; ComponentLink3URL: http://www.altera.com/literature/ds/dspkg.pdf
footprint TQFP100_N (Thin QFP, 100-Leads, Body 14x14mm, Pitch 0.5mm, IPC Medium Density)
footprint TQFP100_L (Thin QFP, 100-Leads, Body 14x14mm, Pitch 0.5mm, IPC High Density)
footprint TQFP100_M (Thin QFP, 100-Leads, Body 14x14mm, Pitch 0.5mm, IPC Low Density)
3D model EPM570-TQFP100 (100-Pin Plastic Thin Quad Flat Pack (TQFP100) - Wire Bond)
part A pins: 2 IO (io), 3 IO (io), 4 IO (io), 5 IO (io), 6 IO (io), 7 IO (io), 8 IO (io), 12 IO/GCLK0 (io), 14 IO/GCLK1 (io), 15 IO (io), 16 IO (io), 17 IO (io), 18 IO (io), 19 IO (io), 20 IO (io), 21 IO (io), 26 IO (io), 27 IO (io), 28 IO (io), 29 IO (io), 30 IO (io), 33 IO (io), 34 IO (io), 35 IO (io), 36 IO (io), 38 IO (io), 40 IO (io), 41 IO (io), 42 IO (io), 43 IO/DEV_OE (io), 44 IO/DEV_CLRn (io), 47 IO (io), 48 IO (io), 49 IO (io), 50 IO (io), 51 IO (io)
part B pins: 1 IO (io), 52 IO (io), 53 IO (io), 54 IO (io), 55 IO (io), 56 IO (io), 57 IO (io), 58 IO (io), 61 IO (io), 62 IO/GCLK2 (io), 64 IO/GCLK3 (io), 66 IO (io), 67 IO (io), 68 IO (io), 69 IO (io), 70 IO (io), 71 IO (io), 72 IO (io), 73 IO (io), 74 IO (io), 75 IO (io), 76 IO (io), 77 IO (io), 78 IO (io), 81 IO (io), 82 IO (io), 83 IO (io), 84 IO (io), 85 IO (io), 86 IO (io), 87 IO (io), 89 IO (io), 91 IO (io), 92 IO (io), 95 IO (io), 96 IO (io), 97 IO (io), 98 IO (io), 99 IO (io), 100 IO (io)
part C pins: 22 TMS (in), 23 TDI (in), 24 TCK (in), 25 TDO (out)
part D pins: 9 VCCIO1 (power), 13 VCCINT (power), 31 VCCIO1 (power), 39 VCCINT (power), 45 VCCIO1 (power), 59 VCCIO2 (power), 63 VCCINT (power), 80 VCCIO2 (power), 88 VCCINT (power), 94 VCCIO2 (power)
part E pins: 10 GNDIO (power), 11 GNDINT (power), 32 GNDIO (power), 37 GNDINT (power), 46 GNDIO (power), 60 GNDIO (power), 65 GNDINT (power), 79 GNDIO (power), 90 GNDINT (power), 93 GNDIO (power)
part A text: BANK 1
part B text: BANK 2

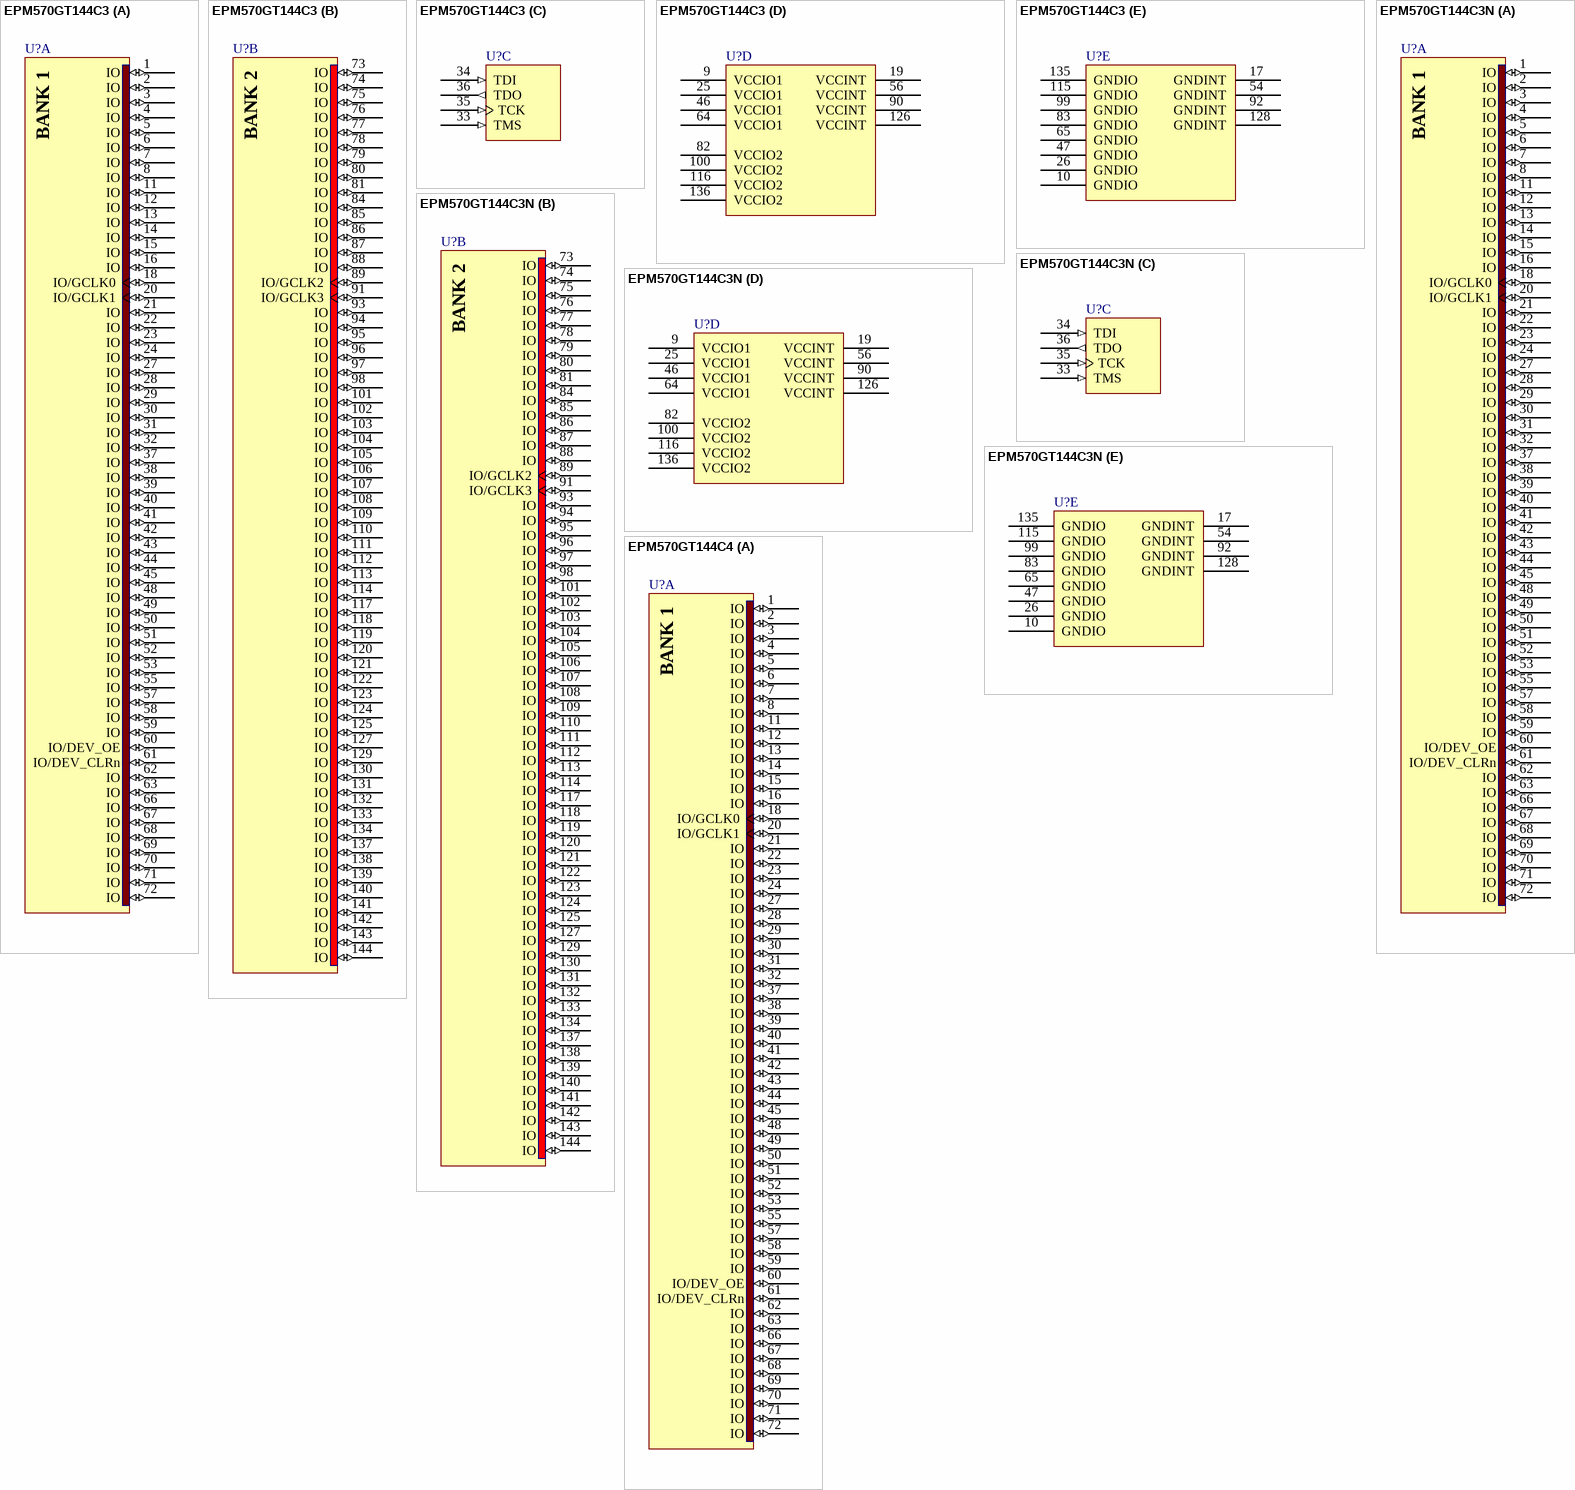
[diagram p48: symbols EPM570GT144C3 to EPM570GT144C4]

## EPM570GT144C3
designator U?
MAX II 1.8V CPLD, 116 IOs, 570 Logic Elements, 144-Pin Plastic TQFP, Commercial Temperature, Speed Grade 3; Note: Each set of VCCIO pins can be connected to 3.3V, 2.5V, 1.8V, or 1.5V.; Note: All VCCINT pins must be connected to 1.8V.; Published: 15-Jul-2004; LatestRevisionDate: 13-Apr-2006; LatestRevisionNote: IPC-7351 Footprint Added.; DatasheetVersion: ver1.8, Jul-2006; PackageVersion: ver15.4, Dec-2008; PackageReference: TQFP144; Publisher: Altium Limited; PackageDescription: 144-Pin Plastic Thin Quad Flat Pack (TQFP144) - Wire Bond; Supplier 1: Digi-Key; Supplier Part Number 1: 544-1309-ND; Code_JEDEC: MS-026-BFB; ComponentLink1Description: Manufacturer Link; ComponentLink1URL: http://www.altera.com/products/devices/cpld/max2/mx2-index.jsp; ComponentLink2Description: Handbook; ComponentLink2URL: http://www.altera.com/literature/hb/max2/max2_mii5v1.pdf; ComponentLink3Description: Packaging Specification; ComponentLink3URL: http://www.altera.com/literature/ds/dspkg.pdf
footprint TQFP144_N (Thin QFP, 144-Leads, Body 20x20mm, Pitch 0.5mm, IPC Medium Density)
footprint TQFP144_L (Thin QFP, 144-Leads, Body 20x20mm, Pitch 0.5mm, IPC High Density)
footprint TQFP144_M (Thin QFP, 144-Leads, Body 20x20mm, Pitch 0.5mm, IPC Low Density)
3D model EPM570-TQFP144 (144-Pin Plastic Thin Quad Flat Pack (TQFP144) - Wire Bond)
part A pins: 1 IO (io), 2 IO (io), 3 IO (io), 4 IO (io), 5 IO (io), 6 IO (io), 7 IO (io), 8 IO (io), 11 IO (io), 12 IO (io), 13 IO (io), 14 IO (io), 15 IO (io), 16 IO (io), 18 IO/GCLK0 (io), 20 IO/GCLK1 (io), 21 IO (io), 22 IO (io), 23 IO (io), 24 IO (io), 27 IO (io), 28 IO (io), 29 IO (io), 30 IO (io), 31 IO (io), 32 IO (io), 37 IO (io), 38 IO (io), 39 IO (io), 40 IO (io), 41 IO (io), 42 IO (io), 43 IO (io), 44 IO (io), 45 IO (io), 48 IO (io), 49 IO (io), 50 IO (io), 51 IO (io), 52 IO (io), 53 IO (io), 55 IO (io), 57 IO (io), 58 IO (io), 59 IO (io), 60 IO/DEV_OE (io), 61 IO/DEV_CLRn (io), 62 IO (io), 63 IO (io), 66 IO (io), 67 IO (io), 68 IO (io), 69 IO (io), 70 IO (io), 71 IO (io), 72 IO (io)
part B pins: 73 IO (io), 74 IO (io), 75 IO (io), 76 IO (io), 77 IO (io), 78 IO (io), 79 IO (io), 80 IO (io), 81 IO (io), 84 IO (io), 85 IO (io), 86 IO (io), 87 IO (io), 88 IO (io), 89 IO/GCLK2 (io), 91 IO/GCLK3 (io), 93 IO (io), 94 IO (io), 95 IO (io), 96 IO (io), 97 IO (io), 98 IO (io), 101 IO (io), 102 IO (io), 103 IO (io), 104 IO (io), 105 IO (io), 106 IO (io), 107 IO (io), 108 IO (io), 109 IO (io), 110 IO (io), 111 IO (io), 112 IO (io), 113 IO (io), 114 IO (io), 117 IO (io), 118 IO (io), 119 IO (io), 120 IO (io), 121 IO (io), 122 IO (io), 123 IO (io), 124 IO (io), 125 IO (io), 127 IO (io), 129 IO (io), 130 IO (io), 131 IO (io), 132 IO (io), 133 IO (io), 134 IO (io), 137 IO (io), 138 IO (io), 139 IO (io), 140 IO (io), 141 IO (io), 142 IO (io), 143 IO (io), 144 IO (io)
part C pins: 33 TMS (in), 34 TDI (in), 35 TCK (in), 36 TDO (out)
part D pins: 9 VCCIO1 (power), 19 VCCINT (power), 25 VCCIO1 (power), 46 VCCIO1 (power), 56 VCCINT (power), 64 VCCIO1 (power), 82 VCCIO2 (power), 90 VCCINT (power), 100 VCCIO2 (power), 116 VCCIO2 (power), 126 VCCINT (power), 136 VCCIO2 (power)
part E pins: 10 GNDIO (power), 17 GNDINT (power), 26 GNDIO (power), 47 GNDIO (power), 54 GNDINT (power), 65 GNDIO (power), 83 GNDIO (power), 92 GNDINT (power), 99 GNDIO (power), 115 GNDIO (power), 128 GNDINT (power), 135 GNDIO (power)
part A text: BANK 1
part B text: BANK 2

## EPM570GT144C3N
designator U?
MAX II 1.8V CPLD, 116 IOs, 570 Logic Elements, 144-Pin Plastic TQFP, Commercial Temperature, Speed Grade 3, Pb-Free; Note: Each set of VCCIO pins can be connected to 3.3V, 2.5V, 1.8V, or 1.5V.; Note: All VCCINT pins must be connected to 1.8V.; Published: 4-Mar-2005; LatestRevisionDate: 13-Apr-2006; LatestRevisionNote: IPC-7351 Footprint Added.; DatasheetVersion: ver1.8, Jul-2006; PackageVersion: ver15.4, Dec-2008; PackageReference: TQFP144; Publisher: Altium Limited; PackageDescription: 144-Pin Plastic Thin Quad Flat Pack (TQFP144) - Wire Bond; Supplier 1: Digi-Key; Supplier Part Number 1: 544-1406-ND; Supplier 2: Farnell; Supplier Part Number 2: 1549474; Code_JEDEC: MS-026-BFB; ComponentLink1Description: Manufacturer Link; ComponentLink1URL: http://www.altera.com/products/devices/cpld/max2/mx2-index.jsp; ComponentLink2Description: Handbook; ComponentLink2URL: http://www.altera.com/literature/hb/max2/max2_mii5v1.pdf; ComponentLink3Description: Packaging Specification; ComponentLink3URL: http://www.altera.com/literature/ds/dspkg.pdf
footprint TQFP144_N (Thin QFP, 144-Leads, Body 20x20mm, Pitch 0.5mm, IPC Medium Density)
footprint TQFP144_L (Thin QFP, 144-Leads, Body 20x20mm, Pitch 0.5mm, IPC High Density)
footprint TQFP144_M (Thin QFP, 144-Leads, Body 20x20mm, Pitch 0.5mm, IPC Low Density)
3D model EPM570-TQFP144 (144-Pin Plastic Thin Quad Flat Pack (TQFP144) - Wire Bond)
part A pins: 1 IO (io), 2 IO (io), 3 IO (io), 4 IO (io), 5 IO (io), 6 IO (io), 7 IO (io), 8 IO (io), 11 IO (io), 12 IO (io), 13 IO (io), 14 IO (io), 15 IO (io), 16 IO (io), 18 IO/GCLK0 (io), 20 IO/GCLK1 (io), 21 IO (io), 22 IO (io), 23 IO (io), 24 IO (io), 27 IO (io), 28 IO (io), 29 IO (io), 30 IO (io), 31 IO (io), 32 IO (io), 37 IO (io), 38 IO (io), 39 IO (io), 40 IO (io), 41 IO (io), 42 IO (io), 43 IO (io), 44 IO (io), 45 IO (io), 48 IO (io), 49 IO (io), 50 IO (io), 51 IO (io), 52 IO (io), 53 IO (io), 55 IO (io), 57 IO (io), 58 IO (io), 59 IO (io), 60 IO/DEV_OE (io), 61 IO/DEV_CLRn (io), 62 IO (io), 63 IO (io), 66 IO (io), 67 IO (io), 68 IO (io), 69 IO (io), 70 IO (io), 71 IO (io), 72 IO (io)
part B pins: 73 IO (io), 74 IO (io), 75 IO (io), 76 IO (io), 77 IO (io), 78 IO (io), 79 IO (io), 80 IO (io), 81 IO (io), 84 IO (io), 85 IO (io), 86 IO (io), 87 IO (io), 88 IO (io), 89 IO/GCLK2 (io), 91 IO/GCLK3 (io), 93 IO (io), 94 IO (io), 95 IO (io), 96 IO (io), 97 IO (io), 98 IO (io), 101 IO (io), 102 IO (io), 103 IO (io), 104 IO (io), 105 IO (io), 106 IO (io), 107 IO (io), 108 IO (io), 109 IO (io), 110 IO (io), 111 IO (io), 112 IO (io), 113 IO (io), 114 IO (io), 117 IO (io), 118 IO (io), 119 IO (io), 120 IO (io), 121 IO (io), 122 IO (io), 123 IO (io), 124 IO (io), 125 IO (io), 127 IO (io), 129 IO (io), 130 IO (io), 131 IO (io), 132 IO (io), 133 IO (io), 134 IO (io), 137 IO (io), 138 IO (io), 139 IO (io), 140 IO (io), 141 IO (io), 142 IO (io), 143 IO (io), 144 IO (io)
part C pins: 33 TMS (in), 34 TDI (in), 35 TCK (in), 36 TDO (out)
part D pins: 9 VCCIO1 (power), 19 VCCINT (power), 25 VCCIO1 (power), 46 VCCIO1 (power), 56 VCCINT (power), 64 VCCIO1 (power), 82 VCCIO2 (power), 90 VCCINT (power), 100 VCCIO2 (power), 116 VCCIO2 (power), 126 VCCINT (power), 136 VCCIO2 (power)
part E pins: 10 GNDIO (power), 17 GNDINT (power), 26 GNDIO (power), 47 GNDIO (power), 54 GNDINT (power), 65 GNDIO (power), 83 GNDIO (power), 92 GNDINT (power), 99 GNDIO (power), 115 GNDIO (power), 128 GNDINT (power), 135 GNDIO (power)
part A text: BANK 1
part B text: BANK 2

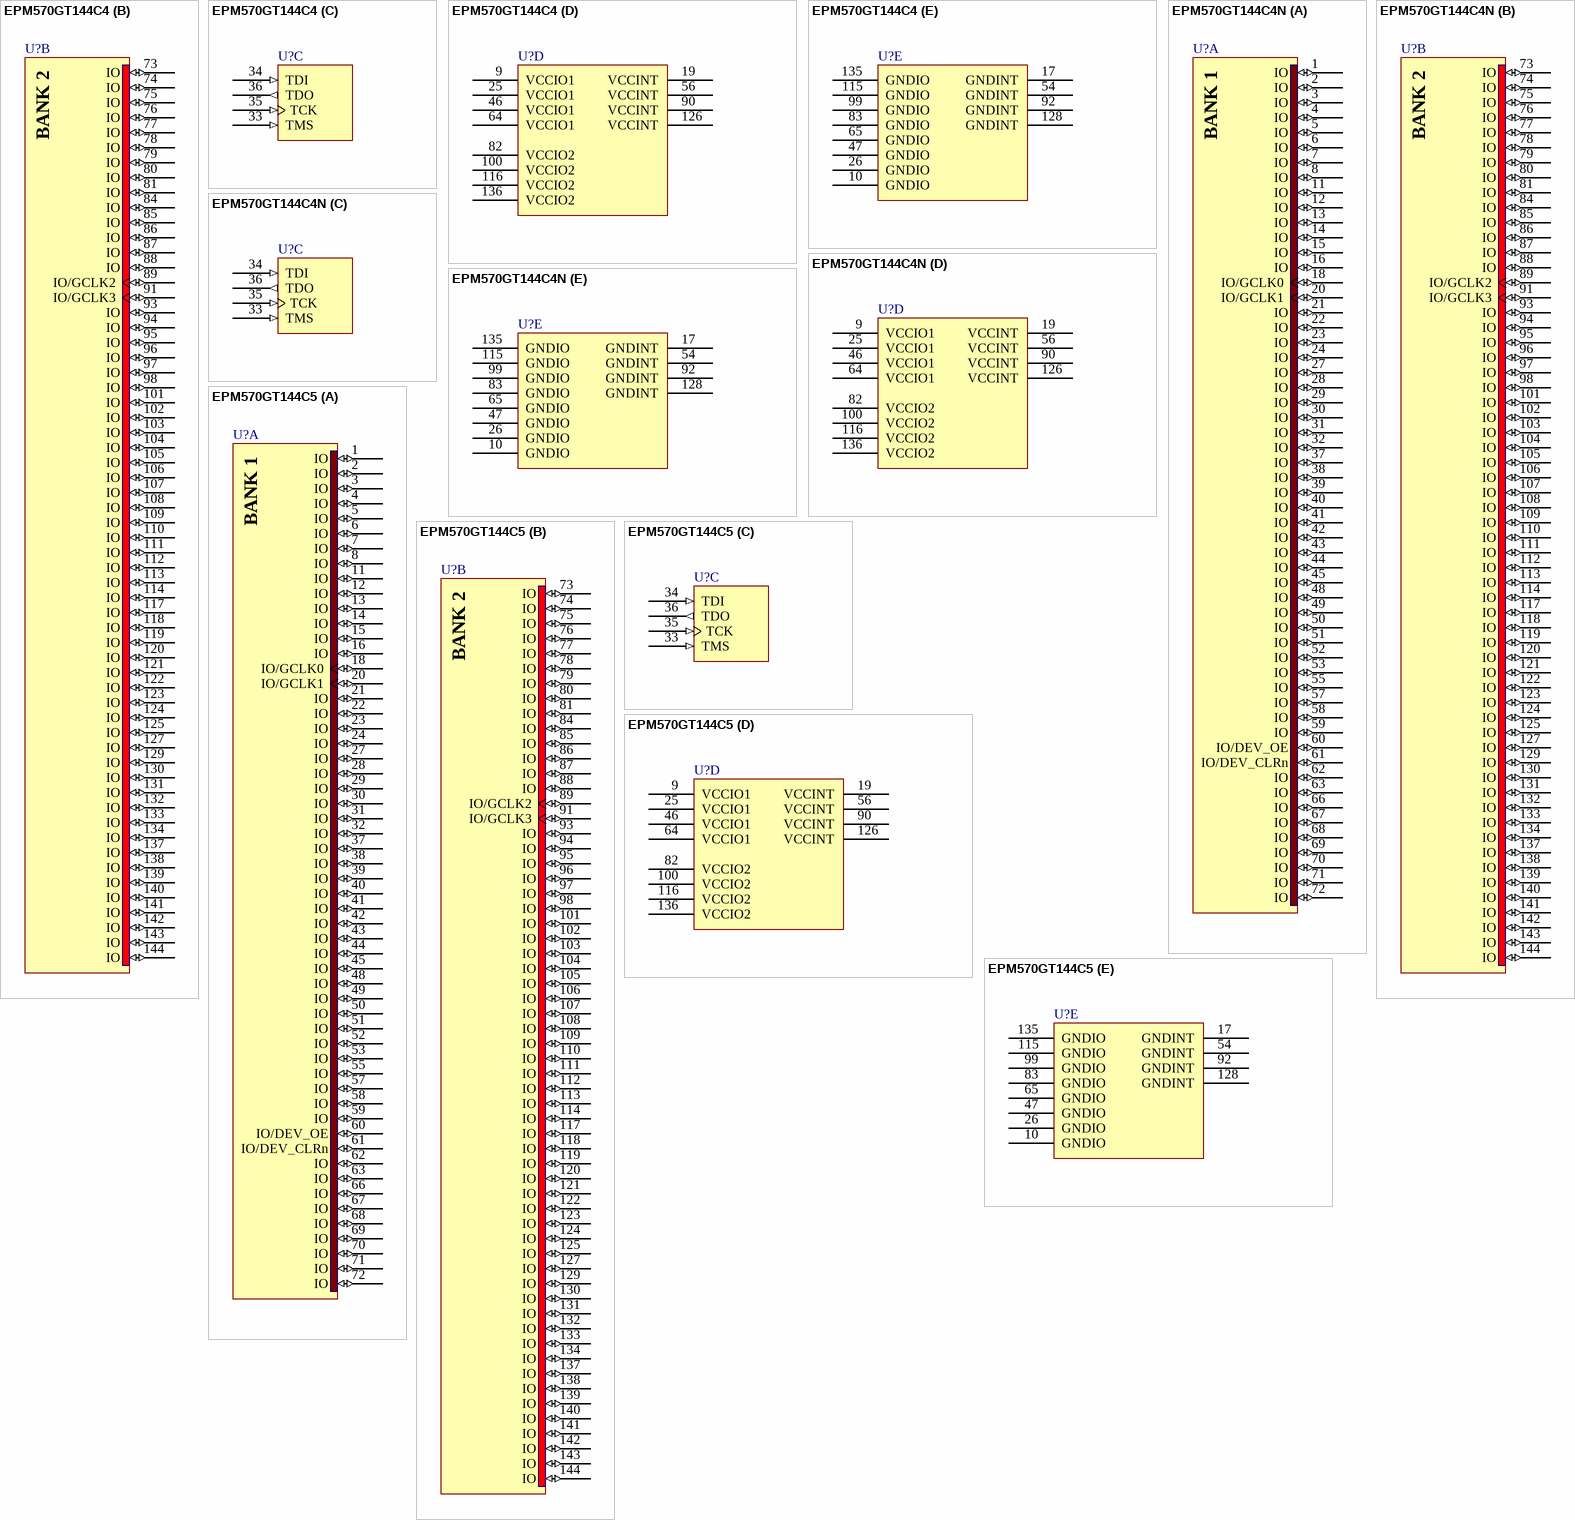
[diagram p49: symbols EPM570GT144C4 to EPM570GT144C5]

## EPM570GT144C4
designator U?
MAX II 1.8V CPLD, 116 IOs, 570 Logic Elements, 144-Pin Plastic TQFP, Commercial Temperature, Speed Grade 4; Note: Each set of VCCIO pins can be connected to 3.3V, 2.5V, 1.8V, or 1.5V.; Note: All VCCINT pins must be connected to 1.8V.; Published: 15-Jul-2004; LatestRevisionDate: 13-Apr-2006; LatestRevisionNote: IPC-7351 Footprint Added.; DatasheetVersion: ver1.8, Jul-2006; PackageVersion: ver15.4, Dec-2008; PackageReference: TQFP144; Publisher: Altium Limited; PackageDescription: 144-Pin Plastic Thin Quad Flat Pack (TQFP144) - Wire Bond; Supplier 1: Digi-Key; Supplier Part Number 1: 544-1310-ND; Code_JEDEC: MS-026-BFB; ComponentLink1Description: Manufacturer Link; ComponentLink1URL: http://www.altera.com/products/devices/cpld/max2/mx2-index.jsp; ComponentLink2Description: Handbook; ComponentLink2URL: http://www.altera.com/literature/hb/max2/max2_mii5v1.pdf; ComponentLink3Description: Packaging Specification; ComponentLink3URL: http://www.altera.com/literature/ds/dspkg.pdf
footprint TQFP144_N (Thin QFP, 144-Leads, Body 20x20mm, Pitch 0.5mm, IPC Medium Density)
footprint TQFP144_L (Thin QFP, 144-Leads, Body 20x20mm, Pitch 0.5mm, IPC High Density)
footprint TQFP144_M (Thin QFP, 144-Leads, Body 20x20mm, Pitch 0.5mm, IPC Low Density)
3D model EPM570-TQFP144 (144-Pin Plastic Thin Quad Flat Pack (TQFP144) - Wire Bond)
part A pins: 1 IO (io), 2 IO (io), 3 IO (io), 4 IO (io), 5 IO (io), 6 IO (io), 7 IO (io), 8 IO (io), 11 IO (io), 12 IO (io), 13 IO (io), 14 IO (io), 15 IO (io), 16 IO (io), 18 IO/GCLK0 (io), 20 IO/GCLK1 (io), 21 IO (io), 22 IO (io), 23 IO (io), 24 IO (io), 27 IO (io), 28 IO (io), 29 IO (io), 30 IO (io), 31 IO (io), 32 IO (io), 37 IO (io), 38 IO (io), 39 IO (io), 40 IO (io), 41 IO (io), 42 IO (io), 43 IO (io), 44 IO (io), 45 IO (io), 48 IO (io), 49 IO (io), 50 IO (io), 51 IO (io), 52 IO (io), 53 IO (io), 55 IO (io), 57 IO (io), 58 IO (io), 59 IO (io), 60 IO/DEV_OE (io), 61 IO/DEV_CLRn (io), 62 IO (io), 63 IO (io), 66 IO (io), 67 IO (io), 68 IO (io), 69 IO (io), 70 IO (io), 71 IO (io), 72 IO (io)
part B pins: 73 IO (io), 74 IO (io), 75 IO (io), 76 IO (io), 77 IO (io), 78 IO (io), 79 IO (io), 80 IO (io), 81 IO (io), 84 IO (io), 85 IO (io), 86 IO (io), 87 IO (io), 88 IO (io), 89 IO/GCLK2 (io), 91 IO/GCLK3 (io), 93 IO (io), 94 IO (io), 95 IO (io), 96 IO (io), 97 IO (io), 98 IO (io), 101 IO (io), 102 IO (io), 103 IO (io), 104 IO (io), 105 IO (io), 106 IO (io), 107 IO (io), 108 IO (io), 109 IO (io), 110 IO (io), 111 IO (io), 112 IO (io), 113 IO (io), 114 IO (io), 117 IO (io), 118 IO (io), 119 IO (io), 120 IO (io), 121 IO (io), 122 IO (io), 123 IO (io), 124 IO (io), 125 IO (io), 127 IO (io), 129 IO (io), 130 IO (io), 131 IO (io), 132 IO (io), 133 IO (io), 134 IO (io), 137 IO (io), 138 IO (io), 139 IO (io), 140 IO (io), 141 IO (io), 142 IO (io), 143 IO (io), 144 IO (io)
part C pins: 33 TMS (in), 34 TDI (in), 35 TCK (in), 36 TDO (out)
part D pins: 9 VCCIO1 (power), 19 VCCINT (power), 25 VCCIO1 (power), 46 VCCIO1 (power), 56 VCCINT (power), 64 VCCIO1 (power), 82 VCCIO2 (power), 90 VCCINT (power), 100 VCCIO2 (power), 116 VCCIO2 (power), 126 VCCINT (power), 136 VCCIO2 (power)
part E pins: 10 GNDIO (power), 17 GNDINT (power), 26 GNDIO (power), 47 GNDIO (power), 54 GNDINT (power), 65 GNDIO (power), 83 GNDIO (power), 92 GNDINT (power), 99 GNDIO (power), 115 GNDIO (power), 128 GNDINT (power), 135 GNDIO (power)
part A text: BANK 1
part B text: BANK 2

## EPM570GT144C4N
designator U?
MAX II 1.8V CPLD, 116 IOs, 570 Logic Elements, 144-Pin Plastic TQFP, Commercial Temperature, Speed Grade 4, Pb-Free; Note: Each set of VCCIO pins can be connected to 3.3V, 2.5V, 1.8V, or 1.5V.; Note: All VCCINT pins must be connected to 1.8V.; Published: 4-Mar-2005; LatestRevisionDate: 13-Apr-2006; LatestRevisionNote: IPC-7351 Footprint Added.; DatasheetVersion: ver1.8, Jul-2006; PackageVersion: ver15.4, Dec-2008; PackageReference: TQFP144; Publisher: Altium Limited; PackageDescription: 144-Pin Plastic Thin Quad Flat Pack (TQFP144) - Wire Bond; Supplier 1: Digi-Key; Supplier Part Number 1: 544-1407-ND; Code_JEDEC: MS-026-BFB; ComponentLink1Description: Manufacturer Link; ComponentLink1URL: http://www.altera.com/products/devices/cpld/max2/mx2-index.jsp; ComponentLink2Description: Handbook; ComponentLink2URL: http://www.altera.com/literature/hb/max2/max2_mii5v1.pdf; ComponentLink3Description: Packaging Specification; ComponentLink3URL: http://www.altera.com/literature/ds/dspkg.pdf
footprint TQFP144_N (Thin QFP, 144-Leads, Body 20x20mm, Pitch 0.5mm, IPC Medium Density)
footprint TQFP144_L (Thin QFP, 144-Leads, Body 20x20mm, Pitch 0.5mm, IPC High Density)
footprint TQFP144_M (Thin QFP, 144-Leads, Body 20x20mm, Pitch 0.5mm, IPC Low Density)
3D model EPM570-TQFP144 (144-Pin Plastic Thin Quad Flat Pack (TQFP144) - Wire Bond)
part A pins: 1 IO (io), 2 IO (io), 3 IO (io), 4 IO (io), 5 IO (io), 6 IO (io), 7 IO (io), 8 IO (io), 11 IO (io), 12 IO (io), 13 IO (io), 14 IO (io), 15 IO (io), 16 IO (io), 18 IO/GCLK0 (io), 20 IO/GCLK1 (io), 21 IO (io), 22 IO (io), 23 IO (io), 24 IO (io), 27 IO (io), 28 IO (io), 29 IO (io), 30 IO (io), 31 IO (io), 32 IO (io), 37 IO (io), 38 IO (io), 39 IO (io), 40 IO (io), 41 IO (io), 42 IO (io), 43 IO (io), 44 IO (io), 45 IO (io), 48 IO (io), 49 IO (io), 50 IO (io), 51 IO (io), 52 IO (io), 53 IO (io), 55 IO (io), 57 IO (io), 58 IO (io), 59 IO (io), 60 IO/DEV_OE (io), 61 IO/DEV_CLRn (io), 62 IO (io), 63 IO (io), 66 IO (io), 67 IO (io), 68 IO (io), 69 IO (io), 70 IO (io), 71 IO (io), 72 IO (io)
part B pins: 73 IO (io), 74 IO (io), 75 IO (io), 76 IO (io), 77 IO (io), 78 IO (io), 79 IO (io), 80 IO (io), 81 IO (io), 84 IO (io), 85 IO (io), 86 IO (io), 87 IO (io), 88 IO (io), 89 IO/GCLK2 (io), 91 IO/GCLK3 (io), 93 IO (io), 94 IO (io), 95 IO (io), 96 IO (io), 97 IO (io), 98 IO (io), 101 IO (io), 102 IO (io), 103 IO (io), 104 IO (io), 105 IO (io), 106 IO (io), 107 IO (io), 108 IO (io), 109 IO (io), 110 IO (io), 111 IO (io), 112 IO (io), 113 IO (io), 114 IO (io), 117 IO (io), 118 IO (io), 119 IO (io), 120 IO (io), 121 IO (io), 122 IO (io), 123 IO (io), 124 IO (io), 125 IO (io), 127 IO (io), 129 IO (io), 130 IO (io), 131 IO (io), 132 IO (io), 133 IO (io), 134 IO (io), 137 IO (io), 138 IO (io), 139 IO (io), 140 IO (io), 141 IO (io), 142 IO (io), 143 IO (io), 144 IO (io)
part C pins: 33 TMS (in), 34 TDI (in), 35 TCK (in), 36 TDO (out)
part D pins: 9 VCCIO1 (power), 19 VCCINT (power), 25 VCCIO1 (power), 46 VCCIO1 (power), 56 VCCINT (power), 64 VCCIO1 (power), 82 VCCIO2 (power), 90 VCCINT (power), 100 VCCIO2 (power), 116 VCCIO2 (power), 126 VCCINT (power), 136 VCCIO2 (power)
part E pins: 10 GNDIO (power), 17 GNDINT (power), 26 GNDIO (power), 47 GNDIO (power), 54 GNDINT (power), 65 GNDIO (power), 83 GNDIO (power), 92 GNDINT (power), 99 GNDIO (power), 115 GNDIO (power), 128 GNDINT (power), 135 GNDIO (power)
part A text: BANK 1
part B text: BANK 2

## EPM570GT144C5
designator U?
MAX II 1.8V CPLD, 116 IOs, 570 Logic Elements, 144-Pin Plastic TQFP, Commercial Temperature, Speed Grade 5; Note: Each set of VCCIO pins can be connected to 3.3V, 2.5V, 1.8V, or 1.5V.; Note: All VCCINT pins must be connected to 1.8V.; Published: 15-Jul-2004; LatestRevisionDate: 13-Apr-2006; LatestRevisionNote: IPC-7351 Footprint Added.; DatasheetVersion: ver1.8, Jul-2006; PackageVersion: ver15.4, Dec-2008; PackageReference: TQFP144; Publisher: Altium Limited; PackageDescription: 144-Pin Plastic Thin Quad Flat Pack (TQFP144) - Wire Bond; Supplier 1: Digi-Key; Supplier Part Number 1: 544-1311-ND; Code_JEDEC: MS-026-BFB; ComponentLink1Description: Manufacturer Link; ComponentLink1URL: http://www.altera.com/products/devices/cpld/max2/mx2-index.jsp; ComponentLink2Description: Handbook; ComponentLink2URL: http://www.altera.com/literature/hb/max2/max2_mii5v1.pdf; ComponentLink3Description: Packaging Specification; ComponentLink3URL: http://www.altera.com/literature/ds/dspkg.pdf
footprint TQFP144_N (Thin QFP, 144-Leads, Body 20x20mm, Pitch 0.5mm, IPC Medium Density)
footprint TQFP144_L (Thin QFP, 144-Leads, Body 20x20mm, Pitch 0.5mm, IPC High Density)
footprint TQFP144_M (Thin QFP, 144-Leads, Body 20x20mm, Pitch 0.5mm, IPC Low Density)
3D model EPM570-TQFP144 (144-Pin Plastic Thin Quad Flat Pack (TQFP144) - Wire Bond)
part A pins: 1 IO (io), 2 IO (io), 3 IO (io), 4 IO (io), 5 IO (io), 6 IO (io), 7 IO (io), 8 IO (io), 11 IO (io), 12 IO (io), 13 IO (io), 14 IO (io), 15 IO (io), 16 IO (io), 18 IO/GCLK0 (io), 20 IO/GCLK1 (io), 21 IO (io), 22 IO (io), 23 IO (io), 24 IO (io), 27 IO (io), 28 IO (io), 29 IO (io), 30 IO (io), 31 IO (io), 32 IO (io), 37 IO (io), 38 IO (io), 39 IO (io), 40 IO (io), 41 IO (io), 42 IO (io), 43 IO (io), 44 IO (io), 45 IO (io), 48 IO (io), 49 IO (io), 50 IO (io), 51 IO (io), 52 IO (io), 53 IO (io), 55 IO (io), 57 IO (io), 58 IO (io), 59 IO (io), 60 IO/DEV_OE (io), 61 IO/DEV_CLRn (io), 62 IO (io), 63 IO (io), 66 IO (io), 67 IO (io), 68 IO (io), 69 IO (io), 70 IO (io), 71 IO (io), 72 IO (io)
part B pins: 73 IO (io), 74 IO (io), 75 IO (io), 76 IO (io), 77 IO (io), 78 IO (io), 79 IO (io), 80 IO (io), 81 IO (io), 84 IO (io), 85 IO (io), 86 IO (io), 87 IO (io), 88 IO (io), 89 IO/GCLK2 (io), 91 IO/GCLK3 (io), 93 IO (io), 94 IO (io), 95 IO (io), 96 IO (io), 97 IO (io), 98 IO (io), 101 IO (io), 102 IO (io), 103 IO (io), 104 IO (io), 105 IO (io), 106 IO (io), 107 IO (io), 108 IO (io), 109 IO (io), 110 IO (io), 111 IO (io), 112 IO (io), 113 IO (io), 114 IO (io), 117 IO (io), 118 IO (io), 119 IO (io), 120 IO (io), 121 IO (io), 122 IO (io), 123 IO (io), 124 IO (io), 125 IO (io), 127 IO (io), 129 IO (io), 130 IO (io), 131 IO (io), 132 IO (io), 133 IO (io), 134 IO (io), 137 IO (io), 138 IO (io), 139 IO (io), 140 IO (io), 141 IO (io), 142 IO (io), 143 IO (io), 144 IO (io)
part C pins: 33 TMS (in), 34 TDI (in), 35 TCK (in), 36 TDO (out)
part D pins: 9 VCCIO1 (power), 19 VCCINT (power), 25 VCCIO1 (power), 46 VCCIO1 (power), 56 VCCINT (power), 64 VCCIO1 (power), 82 VCCIO2 (power), 90 VCCINT (power), 100 VCCIO2 (power), 116 VCCIO2 (power), 126 VCCINT (power), 136 VCCIO2 (power)
part E pins: 10 GNDIO (power), 17 GNDINT (power), 26 GNDIO (power), 47 GNDIO (power), 54 GNDINT (power), 65 GNDIO (power), 83 GNDIO (power), 92 GNDINT (power), 99 GNDIO (power), 115 GNDIO (power), 128 GNDINT (power), 135 GNDIO (power)
part A text: BANK 1
part B text: BANK 2

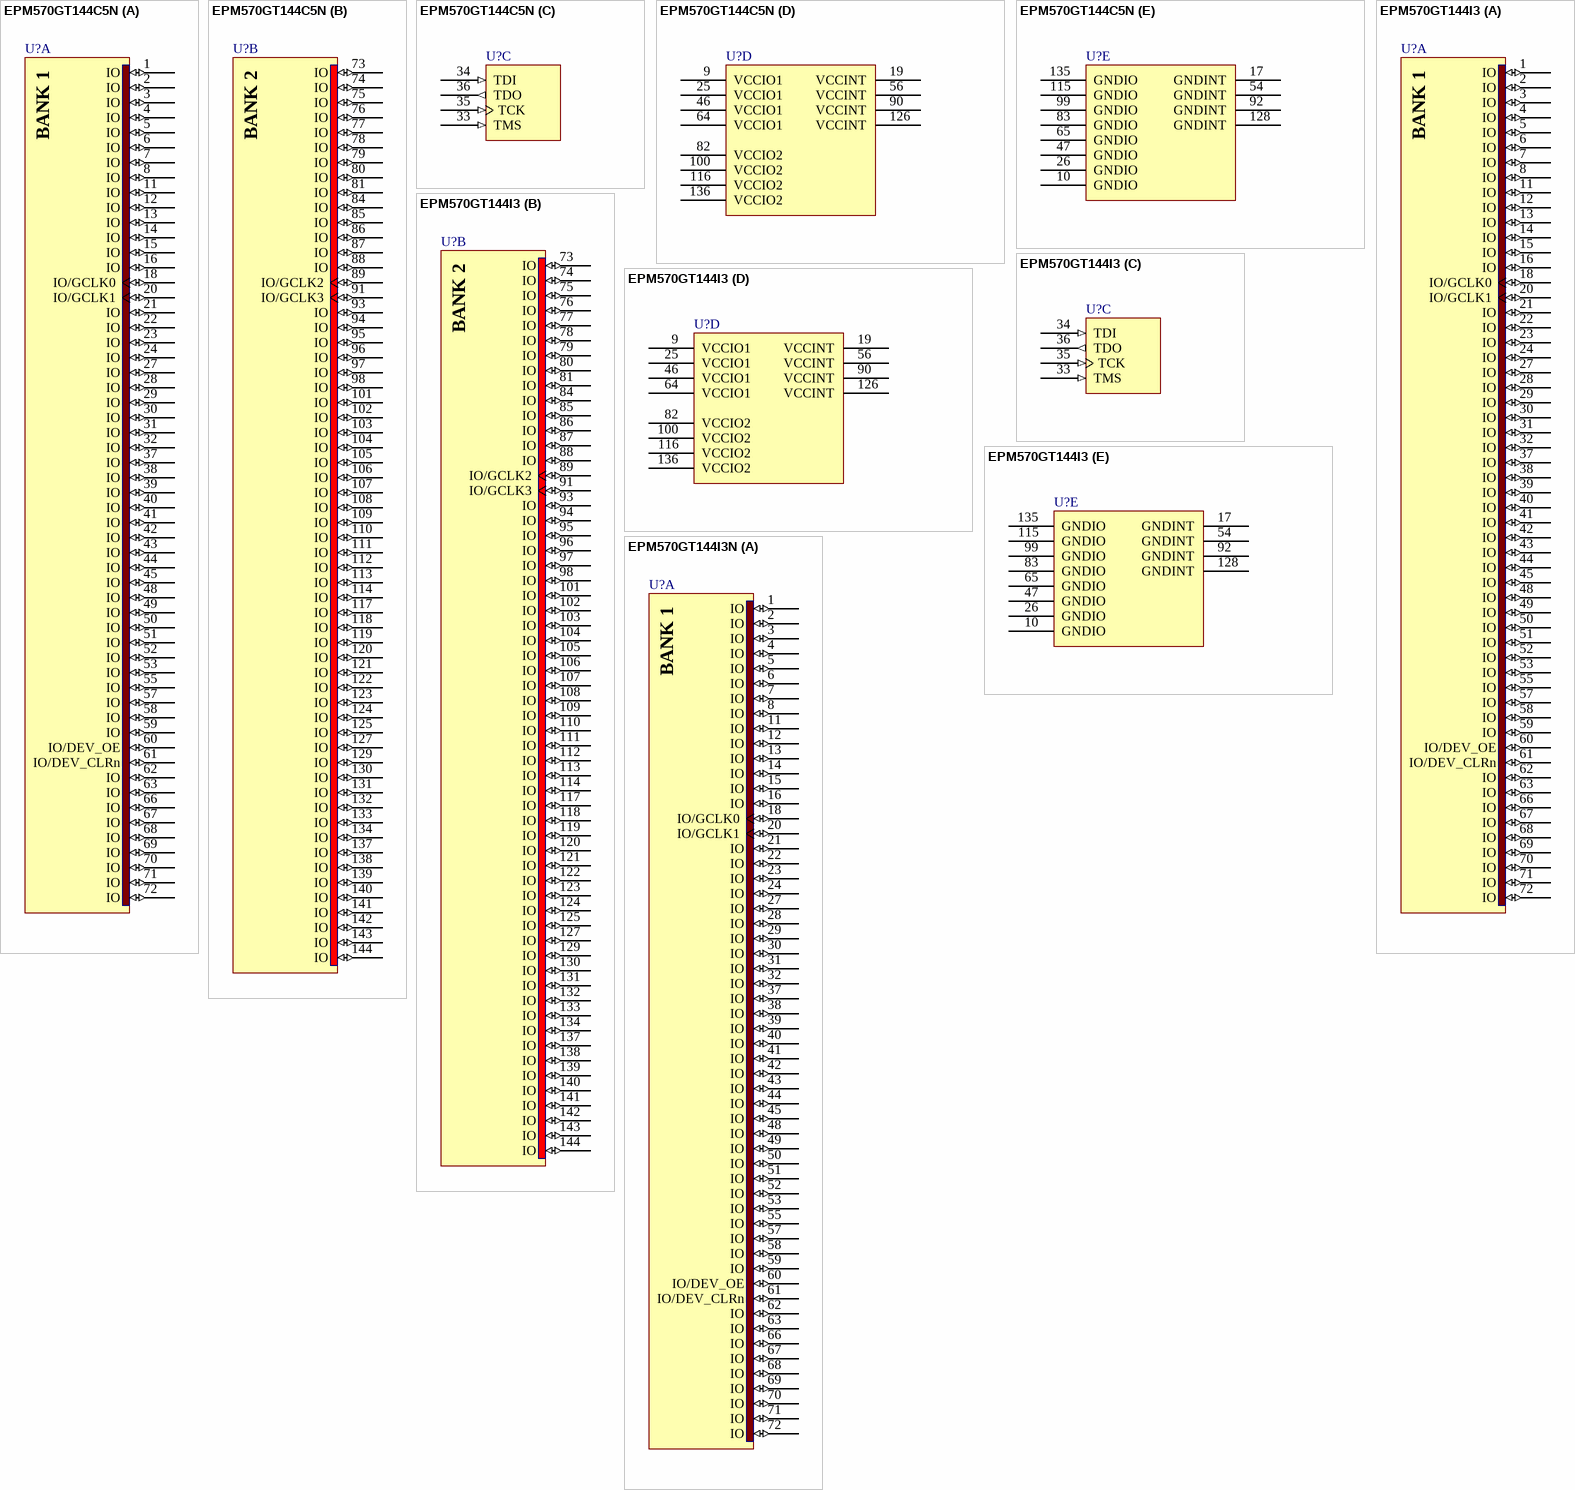
[diagram p50: symbols EPM570GT144C5N to EPM570GT144I3N]

## EPM570GT144C5N
designator U?
MAX II 1.8V CPLD, 116 IOs, 570 Logic Elements, 144-Pin Plastic TQFP, Commercial Temperature, Speed Grade 5, Pb-Free; Note: Each set of VCCIO pins can be connected to 3.3V, 2.5V, 1.8V, or 1.5V.; Note: All VCCINT pins must be connected to 1.8V.; Published: 4-Mar-2005; LatestRevisionDate: 13-Apr-2006; LatestRevisionNote: IPC-7351 Footprint Added.; DatasheetVersion: ver1.8, Jul-2006; PackageVersion: ver15.4, Dec-2008; PackageReference: TQFP144; Publisher: Altium Limited; PackageDescription: 144-Pin Plastic Thin Quad Flat Pack (TQFP144) - Wire Bond; Supplier 1: Digi-Key; Supplier Part Number 1: 544-1408-ND; Code_JEDEC: MS-026-BFB; ComponentLink1Description: Manufacturer Link; ComponentLink1URL: http://www.altera.com/products/devices/cpld/max2/mx2-index.jsp; ComponentLink2Description: Handbook; ComponentLink2URL: http://www.altera.com/literature/hb/max2/max2_mii5v1.pdf; ComponentLink3Description: Packaging Specification; ComponentLink3URL: http://www.altera.com/literature/ds/dspkg.pdf
footprint TQFP144_N (Thin QFP, 144-Leads, Body 20x20mm, Pitch 0.5mm, IPC Medium Density)
footprint TQFP144_L (Thin QFP, 144-Leads, Body 20x20mm, Pitch 0.5mm, IPC High Density)
footprint TQFP144_M (Thin QFP, 144-Leads, Body 20x20mm, Pitch 0.5mm, IPC Low Density)
3D model EPM570-TQFP144 (144-Pin Plastic Thin Quad Flat Pack (TQFP144) - Wire Bond)
part A pins: 1 IO (io), 2 IO (io), 3 IO (io), 4 IO (io), 5 IO (io), 6 IO (io), 7 IO (io), 8 IO (io), 11 IO (io), 12 IO (io), 13 IO (io), 14 IO (io), 15 IO (io), 16 IO (io), 18 IO/GCLK0 (io), 20 IO/GCLK1 (io), 21 IO (io), 22 IO (io), 23 IO (io), 24 IO (io), 27 IO (io), 28 IO (io), 29 IO (io), 30 IO (io), 31 IO (io), 32 IO (io), 37 IO (io), 38 IO (io), 39 IO (io), 40 IO (io), 41 IO (io), 42 IO (io), 43 IO (io), 44 IO (io), 45 IO (io), 48 IO (io), 49 IO (io), 50 IO (io), 51 IO (io), 52 IO (io), 53 IO (io), 55 IO (io), 57 IO (io), 58 IO (io), 59 IO (io), 60 IO/DEV_OE (io), 61 IO/DEV_CLRn (io), 62 IO (io), 63 IO (io), 66 IO (io), 67 IO (io), 68 IO (io), 69 IO (io), 70 IO (io), 71 IO (io), 72 IO (io)
part B pins: 73 IO (io), 74 IO (io), 75 IO (io), 76 IO (io), 77 IO (io), 78 IO (io), 79 IO (io), 80 IO (io), 81 IO (io), 84 IO (io), 85 IO (io), 86 IO (io), 87 IO (io), 88 IO (io), 89 IO/GCLK2 (io), 91 IO/GCLK3 (io), 93 IO (io), 94 IO (io), 95 IO (io), 96 IO (io), 97 IO (io), 98 IO (io), 101 IO (io), 102 IO (io), 103 IO (io), 104 IO (io), 105 IO (io), 106 IO (io), 107 IO (io), 108 IO (io), 109 IO (io), 110 IO (io), 111 IO (io), 112 IO (io), 113 IO (io), 114 IO (io), 117 IO (io), 118 IO (io), 119 IO (io), 120 IO (io), 121 IO (io), 122 IO (io), 123 IO (io), 124 IO (io), 125 IO (io), 127 IO (io), 129 IO (io), 130 IO (io), 131 IO (io), 132 IO (io), 133 IO (io), 134 IO (io), 137 IO (io), 138 IO (io), 139 IO (io), 140 IO (io), 141 IO (io), 142 IO (io), 143 IO (io), 144 IO (io)
part C pins: 33 TMS (in), 34 TDI (in), 35 TCK (in), 36 TDO (out)
part D pins: 9 VCCIO1 (power), 19 VCCINT (power), 25 VCCIO1 (power), 46 VCCIO1 (power), 56 VCCINT (power), 64 VCCIO1 (power), 82 VCCIO2 (power), 90 VCCINT (power), 100 VCCIO2 (power), 116 VCCIO2 (power), 126 VCCINT (power), 136 VCCIO2 (power)
part E pins: 10 GNDIO (power), 17 GNDINT (power), 26 GNDIO (power), 47 GNDIO (power), 54 GNDINT (power), 65 GNDIO (power), 83 GNDIO (power), 92 GNDINT (power), 99 GNDIO (power), 115 GNDIO (power), 128 GNDINT (power), 135 GNDIO (power)
part A text: BANK 1
part B text: BANK 2

## EPM570GT144I3
designator U?
MAX II 1.8V CPLD, 116 IOs, 570 Logic Elements, 144-Pin Plastic TQFP, Industrial Temperature, Speed Grade 3; Note: Each set of VCCIO pins can be connected to 3.3V, 2.5V, 1.8V, or 1.5V.; Note: All VCCINT pins must be connected to 1.8V.; Published: 18-Aug-2005; LatestRevisionDate: 13-Apr-2006; LatestRevisionNote: IPC-7351 Footprint Added.; DatasheetVersion: ver1.8, Jul-2006; PackageVersion: ver15.4, Dec-2008; PackageReference: TQFP144; Publisher: Altium Limited; PackageDescription: 144-Pin Plastic Thin Quad Flat Pack (TQFP144) - Wire Bond; Code_JEDEC: MS-026-BFB; ComponentLink1Description: Manufacturer Link; ComponentLink1URL: http://www.altera.com/products/devices/cpld/max2/mx2-index.jsp; ComponentLink2Description: Handbook; ComponentLink2URL: http://www.altera.com/literature/hb/max2/max2_mii5v1.pdf; ComponentLink3Description: Packaging Specification; ComponentLink3URL: http://www.altera.com/literature/ds/dspkg.pdf
footprint TQFP144_N (Thin QFP, 144-Leads, Body 20x20mm, Pitch 0.5mm, IPC Medium Density)
footprint TQFP144_L (Thin QFP, 144-Leads, Body 20x20mm, Pitch 0.5mm, IPC High Density)
footprint TQFP144_M (Thin QFP, 144-Leads, Body 20x20mm, Pitch 0.5mm, IPC Low Density)
3D model EPM570-TQFP144 (144-Pin Plastic Thin Quad Flat Pack (TQFP144) - Wire Bond)
part A pins: 1 IO (io), 2 IO (io), 3 IO (io), 4 IO (io), 5 IO (io), 6 IO (io), 7 IO (io), 8 IO (io), 11 IO (io), 12 IO (io), 13 IO (io), 14 IO (io), 15 IO (io), 16 IO (io), 18 IO/GCLK0 (io), 20 IO/GCLK1 (io), 21 IO (io), 22 IO (io), 23 IO (io), 24 IO (io), 27 IO (io), 28 IO (io), 29 IO (io), 30 IO (io), 31 IO (io), 32 IO (io), 37 IO (io), 38 IO (io), 39 IO (io), 40 IO (io), 41 IO (io), 42 IO (io), 43 IO (io), 44 IO (io), 45 IO (io), 48 IO (io), 49 IO (io), 50 IO (io), 51 IO (io), 52 IO (io), 53 IO (io), 55 IO (io), 57 IO (io), 58 IO (io), 59 IO (io), 60 IO/DEV_OE (io), 61 IO/DEV_CLRn (io), 62 IO (io), 63 IO (io), 66 IO (io), 67 IO (io), 68 IO (io), 69 IO (io), 70 IO (io), 71 IO (io), 72 IO (io)
part B pins: 73 IO (io), 74 IO (io), 75 IO (io), 76 IO (io), 77 IO (io), 78 IO (io), 79 IO (io), 80 IO (io), 81 IO (io), 84 IO (io), 85 IO (io), 86 IO (io), 87 IO (io), 88 IO (io), 89 IO/GCLK2 (io), 91 IO/GCLK3 (io), 93 IO (io), 94 IO (io), 95 IO (io), 96 IO (io), 97 IO (io), 98 IO (io), 101 IO (io), 102 IO (io), 103 IO (io), 104 IO (io), 105 IO (io), 106 IO (io), 107 IO (io), 108 IO (io), 109 IO (io), 110 IO (io), 111 IO (io), 112 IO (io), 113 IO (io), 114 IO (io), 117 IO (io), 118 IO (io), 119 IO (io), 120 IO (io), 121 IO (io), 122 IO (io), 123 IO (io), 124 IO (io), 125 IO (io), 127 IO (io), 129 IO (io), 130 IO (io), 131 IO (io), 132 IO (io), 133 IO (io), 134 IO (io), 137 IO (io), 138 IO (io), 139 IO (io), 140 IO (io), 141 IO (io), 142 IO (io), 143 IO (io), 144 IO (io)
part C pins: 33 TMS (in), 34 TDI (in), 35 TCK (in), 36 TDO (out)
part D pins: 9 VCCIO1 (power), 19 VCCINT (power), 25 VCCIO1 (power), 46 VCCIO1 (power), 56 VCCINT (power), 64 VCCIO1 (power), 82 VCCIO2 (power), 90 VCCINT (power), 100 VCCIO2 (power), 116 VCCIO2 (power), 126 VCCINT (power), 136 VCCIO2 (power)
part E pins: 10 GNDIO (power), 17 GNDINT (power), 26 GNDIO (power), 47 GNDIO (power), 54 GNDINT (power), 65 GNDIO (power), 83 GNDIO (power), 92 GNDINT (power), 99 GNDIO (power), 115 GNDIO (power), 128 GNDINT (power), 135 GNDIO (power)
part A text: BANK 1
part B text: BANK 2

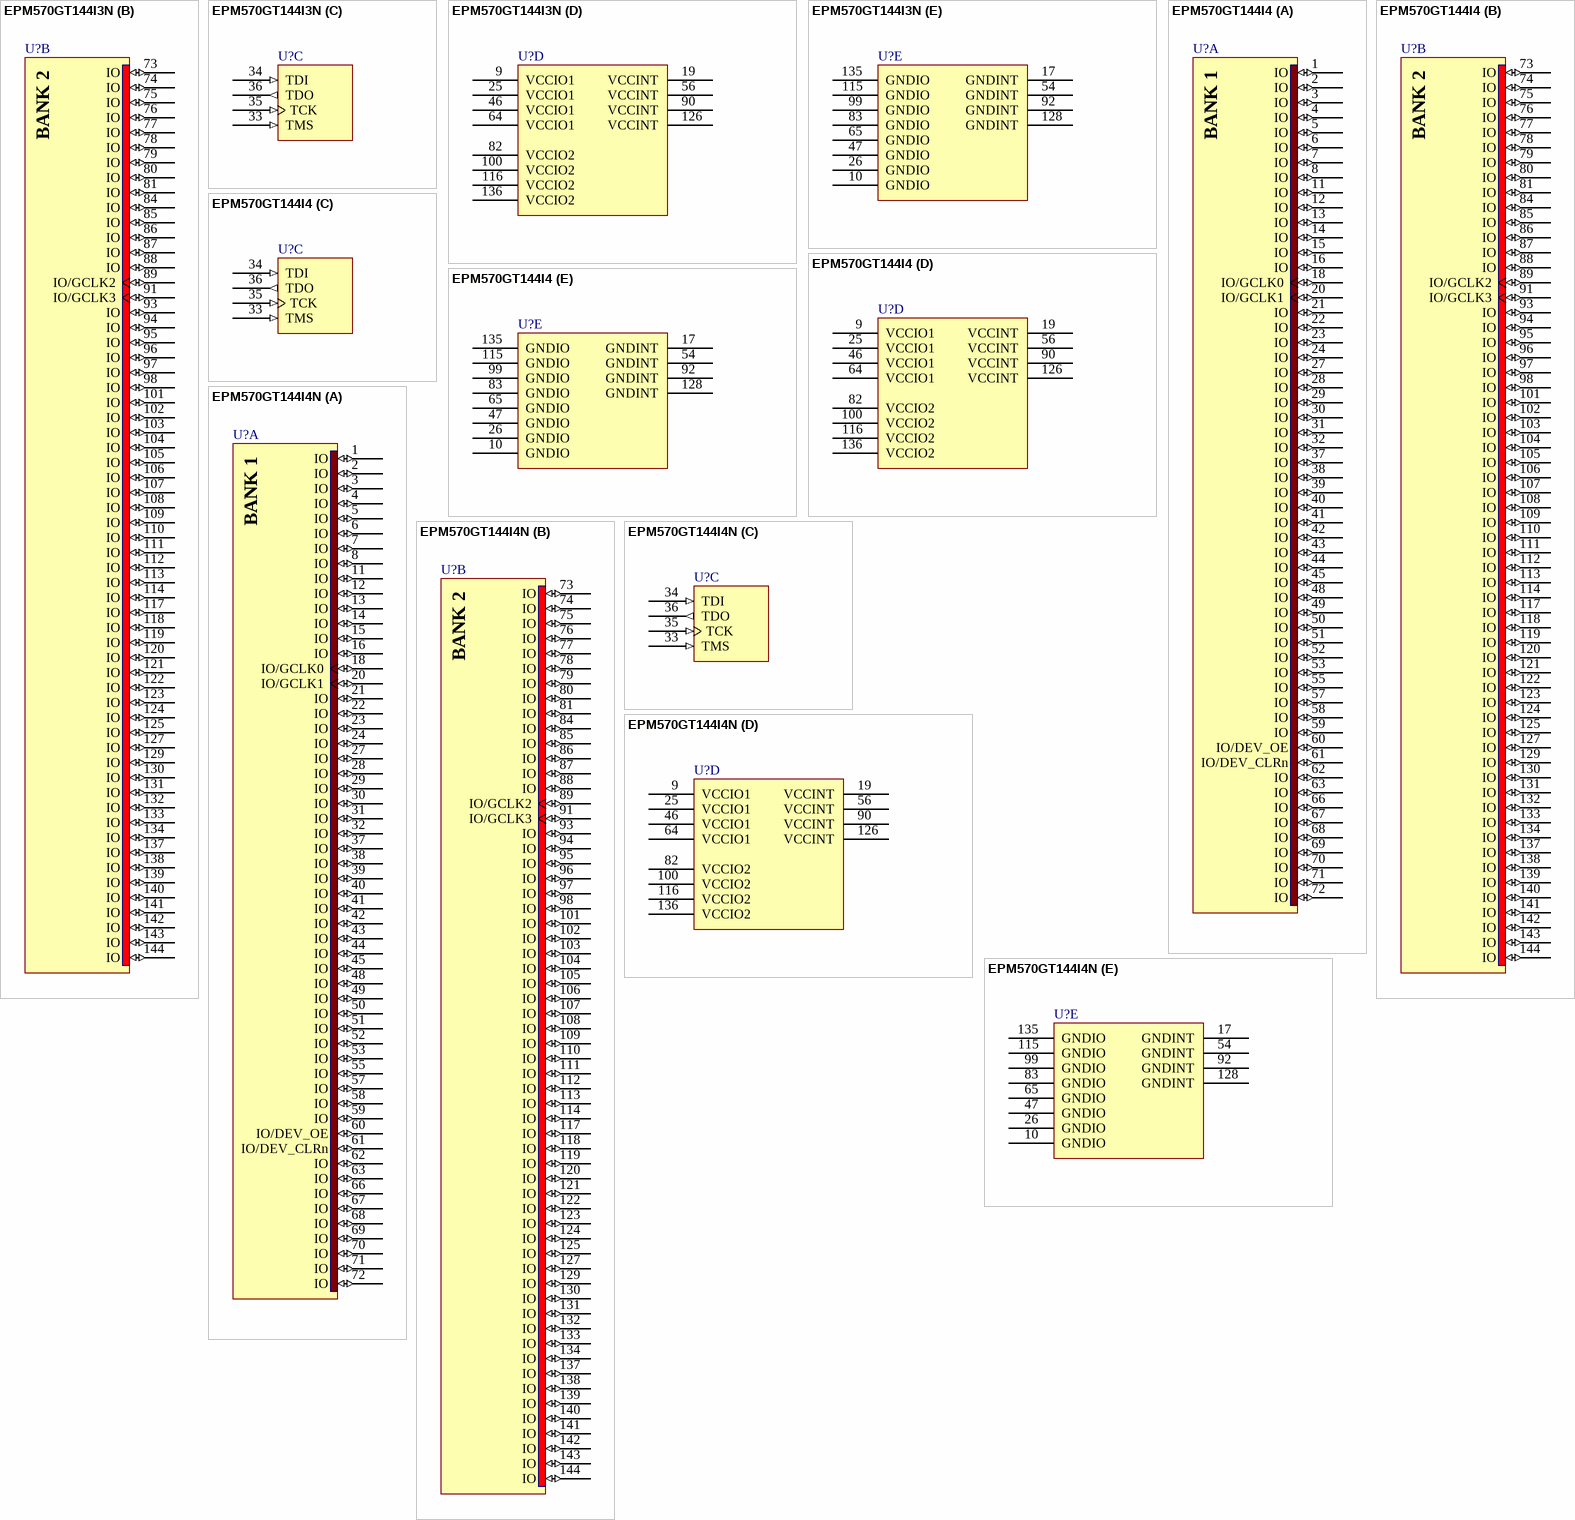
[diagram p51: symbols EPM570GT144I3N to EPM570GT144I4N]